# Altium integrated library Altera Cyclone.IntLib: 144 symbols (part 14 of 23)
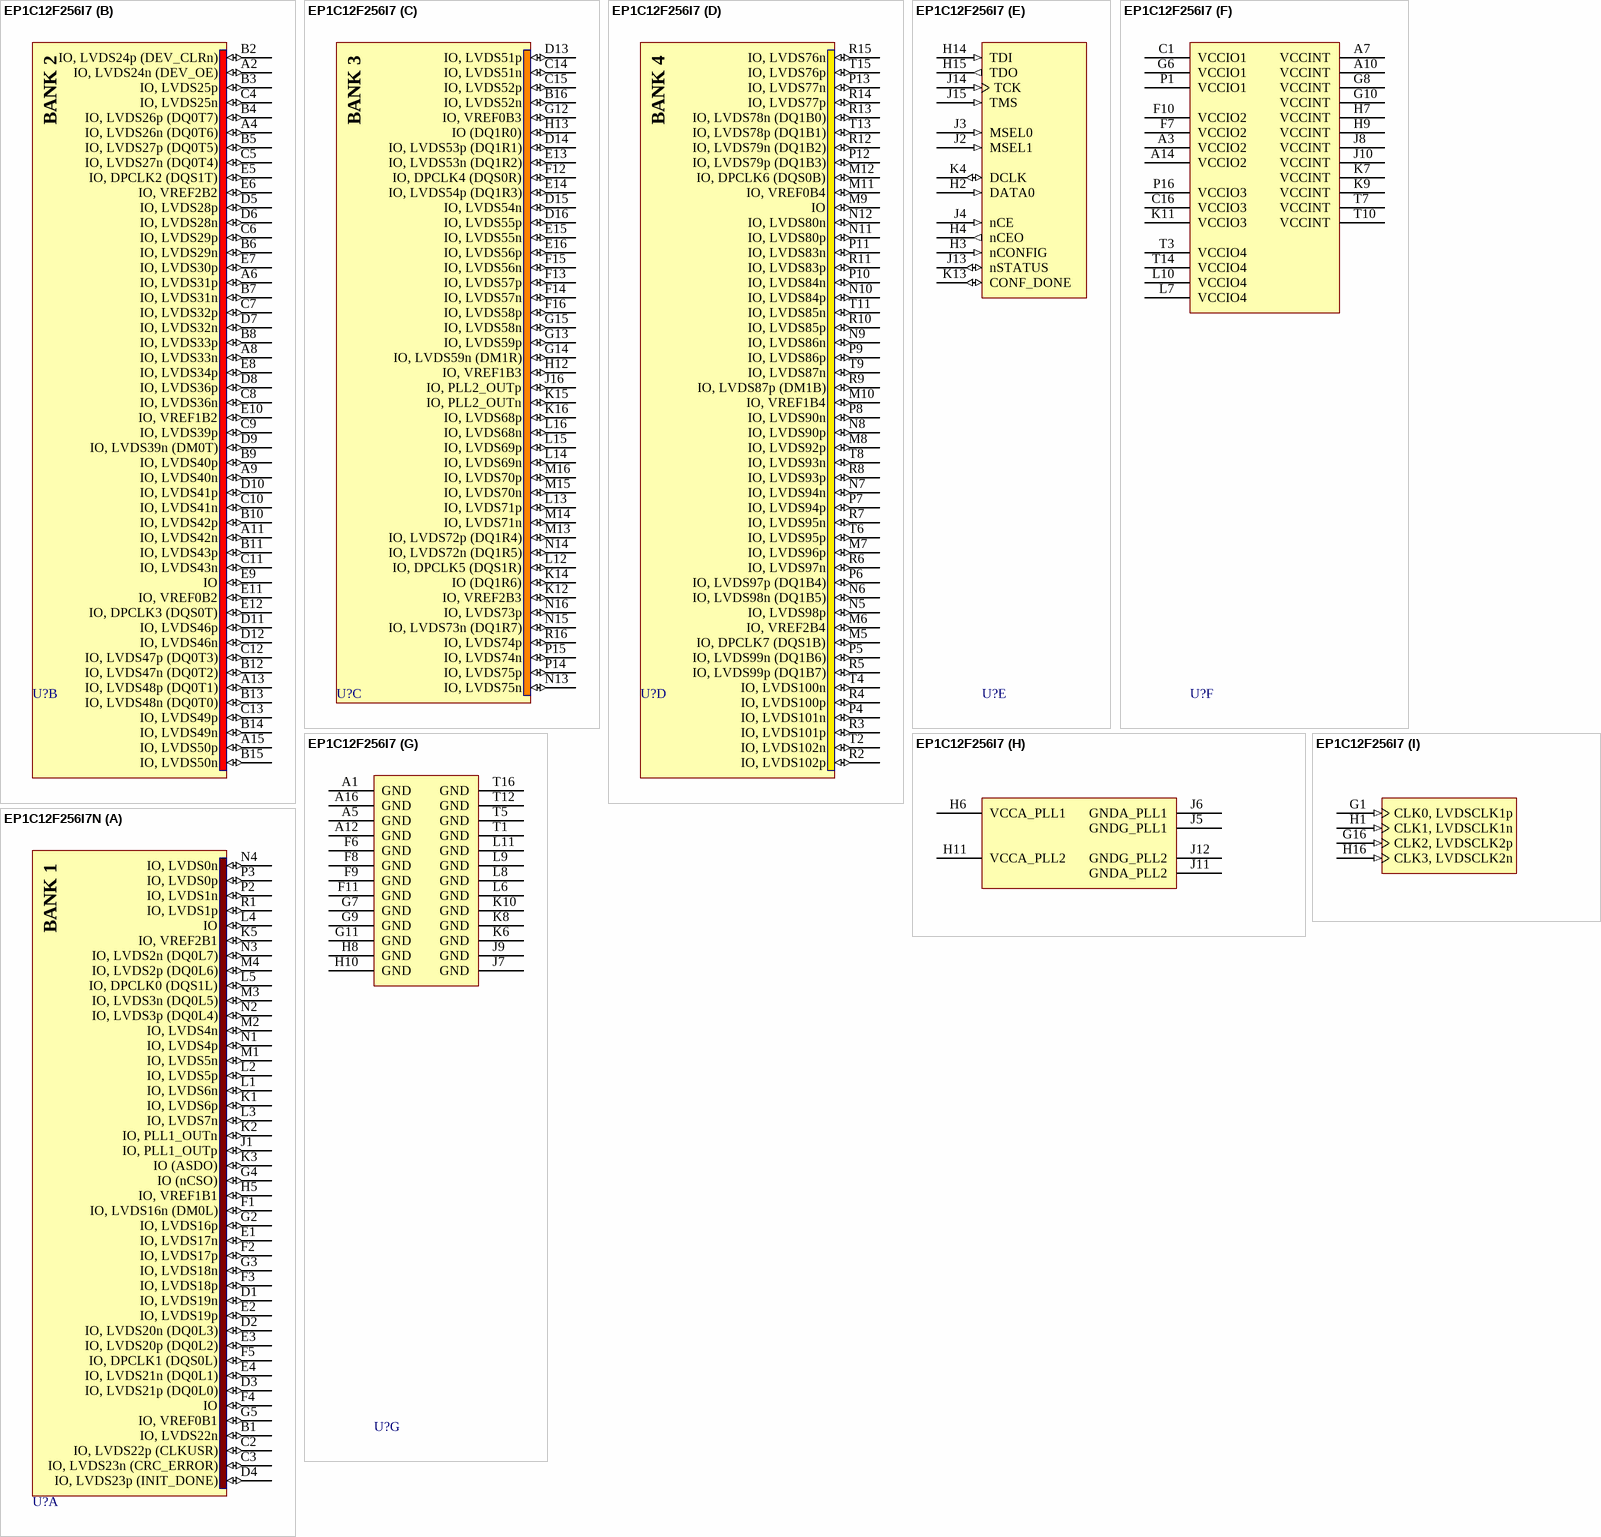
[diagram p166: symbols EP1C12F256I7 to EP1C12F256I7N]

## EP1C12F256I7
designator U?
Cyclone Family, 1.5V FPGA, 185 I/O Pins, 2 x PLLs, Industrial Grade, Speed Grade 7; Published: 17-Sep-2003; LatestRevisionDate: 30-Mar-2007; LatestRevisionNote: DQS pin names fixed.; DatasheetVersion: ver2.4, May-2008; PackageVersion: ver16.0, Dec-2009; PackageReference: FBGA256; Publisher: Altium Limited; PackageDescription: 256-Ball FineLine Ball Grid Array (FBGA256) - Option 1 - Wire Bond; Supplier 1: Digi-Key; Supplier Part Number 1: 544-1013-ND; Code_JEDEC: MS-034-AAF-1; Code_IPC: BGA100P16X16-256; ComponentLink1Description: Manufacturer Link; ComponentLink1URL: http://www.altera.com/products/devices/cyclone/cyc-index.jsp; ComponentLink2Description: Handbook; ComponentLink2URL: http://www.altera.com/literature/hb/cyc/cyc_c5v1.pdf; ComponentLink3Description: Packaging Specification; ComponentLink3URL: http://www.altera.com/literature/ds/dspkg.pdf
footprint FBGA256 (BGA, 256-Leads, Body 17x17mm, Pitch 1mm)
3D model EP1C12-FBGA256 (256-Ball FineLine Ball Grid Array (FBGA256) - Option 1 - Wire Bond)
signal-integrity model 1c (Cyclone)
part A pins: B1 IO, LVDS22n (io), C2 IO, LVDS22p (CLKUSR) (io), C3 IO, LVDS23n (CRC_ERROR) (io), D1 IO, LVDS19n (io), D2 IO, LVDS20n (DQ0L3) (io), D3 IO, LVDS21p (DQ0L0) (io), D4 IO, LVDS23p (INIT_DONE) (io), E1 IO, LVDS17n (io), E2 IO, LVDS19p (io), E3 IO, LVDS20p (DQ0L2) (io), E4 IO, LVDS21n (DQ0L1) (io), F1 IO, LVDS16n (DM0L) (io), F2 IO, LVDS17p (io), F3 IO, LVDS18p (io), F4 IO (io), F5 IO, DPCLK1 (DQS0L) (io), G2 IO, LVDS16p (io), G3 IO, LVDS18n (io), G4 IO (nCSO) (io), G5 IO, VREF0B1 (io), H5 IO, VREF1B1 (io), J1 IO, PLL1_OUTp (io), K1 IO, LVDS6p (io), K2 IO, PLL1_OUTn (io), K3 IO (ASDO) (io), K5 IO, VREF2B1 (io), L1 IO, LVDS6n (io), L2 IO, LVDS5p (io), L3 IO, LVDS7n (io), L4 IO (io), L5 IO, DPCLK0 (DQS1L) (io), M1 IO, LVDS5n (io), M2 IO, LVDS4n (io), M3 IO, LVDS3n (DQ0L5) (io), M4 IO, LVDS2p (DQ0L6) (io), N1 IO, LVDS4p (io), N2 IO, LVDS3p (DQ0L4) (io), N3 IO, LVDS2n (DQ0L7) (io), N4 IO, LVDS0n (io), P2 IO, LVDS1n (io), P3 IO, LVDS0p (io), R1 IO, LVDS1p (io)
part B pins: A2 IO, LVDS24n (DEV_OE) (io), A4 IO, LVDS26n (DQ0T6) (io), A6 IO, LVDS31p (io), A8 IO, LVDS33n (io), A9 IO, LVDS40n (io), A11 IO, LVDS42n (io), A13 IO, LVDS48p (DQ0T1) (io), A15 IO, LVDS50p (io), B2 IO, LVDS24p (DEV_CLRn) (io), B3 IO, LVDS25p (io), B4 IO, LVDS26p (DQ0T7) (io), B5 IO, LVDS27p (DQ0T5) (io), B6 IO, LVDS29n (io), B7 IO, LVDS31n (io), B8 IO, LVDS33p (io), B9 IO, LVDS40p (io), B10 IO, LVDS42p (io), B11 IO, LVDS43p (io), B12 IO, LVDS47n (DQ0T2) (io), B13 IO, LVDS48n (DQ0T0) (io), B14 IO, LVDS49n (io), B15 IO, LVDS50n (io), C4 IO, LVDS25n (io), C5 IO, LVDS27n (DQ0T4) (io), C6 IO, LVDS29p (io), C7 IO, LVDS32p (io), C8 IO, LVDS36n (io), C9 IO, LVDS39p (io), C10 IO, LVDS41n (io), C11 IO, LVDS43n (io), C12 IO, LVDS47p (DQ0T3) (io), C13 IO, LVDS49p (io), D5 IO, LVDS28p (io), D6 IO, LVDS28n (io), D7 IO, LVDS32n (io), D8 IO, LVDS36p (io), D9 IO, LVDS39n (DM0T) (io), D10 IO, LVDS41p (io), D11 IO, LVDS46p (io), D12 IO, LVDS46n (io), E5 IO, DPCLK2 (DQS1T) (io), E6 IO, VREF2B2 (io), E7 IO, LVDS30p (io), E8 IO, LVDS34p (io), E9 IO (io), E10 IO, VREF1B2 (io), E11 IO, VREF0B2 (io), E12 IO, DPCLK3 (DQS0T) (io)
part C pins: B16 IO, LVDS52n (io), C14 IO, LVDS51n (io), C15 IO, LVDS52p (io), D13 IO, LVDS51p (io), D14 IO, LVDS53p (DQ1R1) (io), D15 IO, LVDS54n (io), D16 IO, LVDS55p (io), E13 IO, LVDS53n (DQ1R2) (io), E14 IO, LVDS54p (DQ1R3) (io), E15 IO, LVDS55n (io), E16 IO, LVDS56p (io), F12 IO, DPCLK4 (DQS0R) (io), F13 IO, LVDS57p (io), F14 IO, LVDS57n (io), F15 IO, LVDS56n (io), F16 IO, LVDS58p (io), G12 IO, VREF0B3 (io), G13 IO, LVDS59p (io), G14 IO, LVDS59n (DM1R) (io), G15 IO, LVDS58n (io), H12 IO, VREF1B3 (io), H13 IO (DQ1R0) (io), J16 IO, PLL2_OUTp (io), K12 IO, VREF2B3 (io), K14 IO (DQ1R6) (io), K15 IO, PLL2_OUTn (io), K16 IO, LVDS68p (io), L12 IO, DPCLK5 (DQS1R) (io), L13 IO, LVDS71p (io), L14 IO, LVDS69n (io), L15 IO, LVDS69p (io), L16 IO, LVDS68n (io), M13 IO, LVDS72p (DQ1R4) (io), M14 IO, LVDS71n (io), M15 IO, LVDS70n (io), M16 IO, LVDS70p (io), N13 IO, LVDS75n (io), N14 IO, LVDS72n (DQ1R5) (io), N15 IO, LVDS73n (DQ1R7) (io), N16 IO, LVDS73p (io), P14 IO, LVDS75p (io), P15 IO, LVDS74n (io), R16 IO, LVDS74p (io)
part D pins: M5 IO, DPCLK7 (DQS1B) (io), M6 IO, VREF2B4 (io), M7 IO, LVDS96p (io), M8 IO, LVDS92p (io), M9 IO (io), M10 IO, VREF1B4 (io), M11 IO, VREF0B4 (io), M12 IO, DPCLK6 (DQS0B) (io), N5 IO, LVDS98p (io), N6 IO, LVDS98n (DQ1B5) (io), N7 IO, LVDS94n (io), N8 IO, LVDS90p (io), N9 IO, LVDS86n (io), N10 IO, LVDS84p (io), N11 IO, LVDS80p (io), N12 IO, LVDS80n (io), P4 IO, LVDS101n (io), P5 IO, LVDS99n (DQ1B6) (io), P6 IO, LVDS97p (DQ1B4) (io), P7 IO, LVDS94p (io), P8 IO, LVDS90n (io), P9 IO, LVDS86p (io), P10 IO, LVDS84n (io), P11 IO, LVDS83n (io), P12 IO, LVDS79p (DQ1B3) (io), P13 IO, LVDS77n (io), R2 IO, LVDS102p (io), R3 IO, LVDS101p (io), R4 IO, LVDS100p (io), R5 IO, LVDS99p (DQ1B7) (io), R6 IO, LVDS97n (io), R7 IO, LVDS95n (io), R8 IO, LVDS93p (io), R9 IO, LVDS87p (DM1B) (io), R10 IO, LVDS85p (io), R11 IO, LVDS83p (io), R12 IO, LVDS79n (DQ1B2) (io), R13 IO, LVDS78n (DQ1B0) (io), R14 IO, LVDS77p (io), R15 IO, LVDS76n (io), T2 IO, LVDS102n (io), T4 IO, LVDS100n (io), T6 IO, LVDS95p (io), T8 IO, LVDS93n (io), T9 IO, LVDS87n (io), T11 IO, LVDS85n (io), T13 IO, LVDS78p (DQ1B1) (io), T15 IO, LVDS76p (io)
part E pins: H2 DATA0 (in), H3 nCONFIG (in), H4 nCEO (out), H14 TDI (in), H15 TDO (out), J2 MSEL1 (in), J3 MSEL0 (in), J4 nCE (in), J13 nSTATUS (io), J14 TCK (in), J15 TMS (in), K4 DCLK (io), K13 CONF_DONE (io)
part F pins: A3 VCCIO2 (power), A7 VCCINT (power), A10 VCCINT (power), A14 VCCIO2 (power), C1 VCCIO1 (power), C16 VCCIO3 (power), F7 VCCIO2 (power), F10 VCCIO2 (power), G6 VCCIO1 (power), G8 VCCINT (power), G10 VCCINT (power), H7 VCCINT (power), H9 VCCINT (power), J8 VCCINT (power), J10 VCCINT (power), K7 VCCINT (power), K9 VCCINT (power), K11 VCCIO3 (power), L7 VCCIO4 (power), L10 VCCIO4 (power), P1 VCCIO1 (power), P16 VCCIO3 (power), T3 VCCIO4 (power), T7 VCCINT (power), T10 VCCINT (power), T14 VCCIO4 (power)
part G pins: A1 GND (power), A5 GND (power), A12 GND (power), A16 GND (power), F6 GND (power), F8 GND (power), F9 GND (power), F11 GND (power), G7 GND (power), G9 GND (power), G11 GND (power), H8 GND (power), H10 GND (power), J7 GND (power), J9 GND (power), K6 GND (power), K8 GND (power), K10 GND (power), L6 GND (power), L8 GND (power), L9 GND (power), L11 GND (power), T1 GND (power), T5 GND (power), T12 GND (power), T16 GND (power)
part H pins: H6 VCCA_PLL1 (power), H11 VCCA_PLL2 (power), J5 GNDG_PLL1 (power), J6 GNDA_PLL1 (power), J11 GNDA_PLL2 (power), J12 GNDG_PLL2 (power)
part I pins: G1 CLK0, LVDSCLK1p (in), G16 CLK2, LVDSCLK2p (in), H1 CLK1, LVDSCLK1n (in), H16 CLK3, LVDSCLK2n (in)
part A text: BANK 1
part B text: BANK 2
part C text: BANK 3
part D text: BANK 4

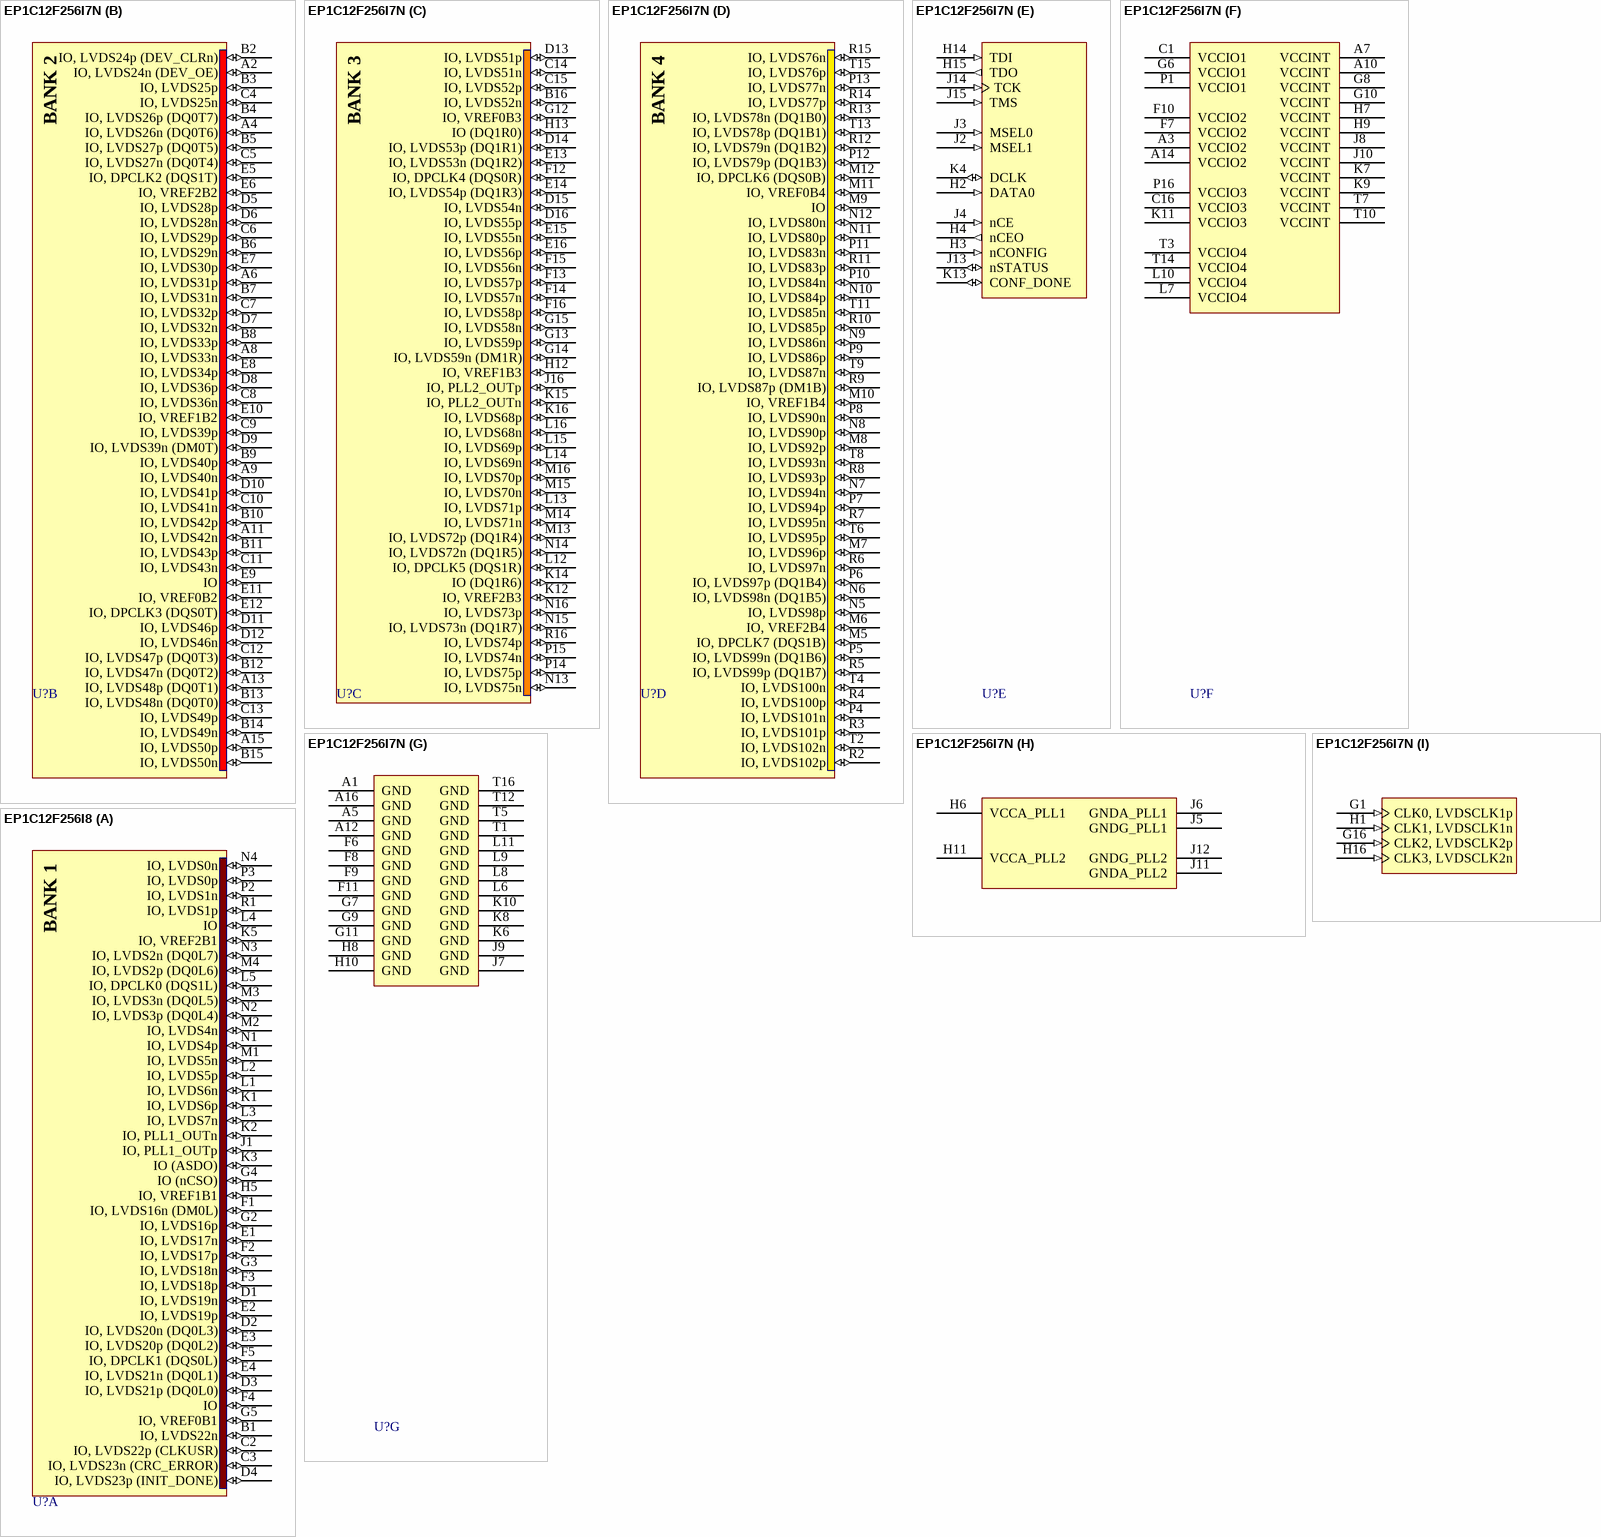
[diagram p89: symbols EP1C12F256I7N to EP1C12F256I8]

## EP1C12F256I7N
designator U?
Cyclone Family, 1.5V FPGA, 185 I/O Pins, 2 x PLLs, Industrial Grade, Speed Grade 7, Pb-Free; Published: 18-Aug-2005; LatestRevisionDate: 30-Mar-2007; LatestRevisionNote: DQS pin names fixed.; DatasheetVersion: ver2.4, May-2008; PackageVersion: ver16.0, Dec-2009; PackageReference: FBGA256; Publisher: Altium Limited; PackageDescription: 256-Ball FineLine Ball Grid Array (FBGA256) - Option 1 - Wire Bond; Supplier 1: Digi-Key; Supplier Part Number 1: 544-1676-ND; Supplier 2: Farnell; Supplier Part Number 2: 1453467; Code_JEDEC: MS-034-AAF-1; Code_IPC: BGA100P16X16-256; ComponentLink1Description: Manufacturer Link; ComponentLink1URL: http://www.altera.com/products/devices/cyclone/cyc-index.jsp; ComponentLink2Description: Handbook; ComponentLink2URL: http://www.altera.com/literature/hb/cyc/cyc_c5v1.pdf; ComponentLink3Description: Packaging Specification; ComponentLink3URL: http://www.altera.com/literature/ds/dspkg.pdf
footprint FBGA256 (BGA, 256-Leads, Body 17x17mm, Pitch 1mm)
3D model EP1C12-FBGA256 (256-Ball FineLine Ball Grid Array (FBGA256) - Option 1 - Wire Bond)
signal-integrity model 1c (Cyclone)
part A pins: B1 IO, LVDS22n (io), C2 IO, LVDS22p (CLKUSR) (io), C3 IO, LVDS23n (CRC_ERROR) (io), D1 IO, LVDS19n (io), D2 IO, LVDS20n (DQ0L3) (io), D3 IO, LVDS21p (DQ0L0) (io), D4 IO, LVDS23p (INIT_DONE) (io), E1 IO, LVDS17n (io), E2 IO, LVDS19p (io), E3 IO, LVDS20p (DQ0L2) (io), E4 IO, LVDS21n (DQ0L1) (io), F1 IO, LVDS16n (DM0L) (io), F2 IO, LVDS17p (io), F3 IO, LVDS18p (io), F4 IO (io), F5 IO, DPCLK1 (DQS0L) (io), G2 IO, LVDS16p (io), G3 IO, LVDS18n (io), G4 IO (nCSO) (io), G5 IO, VREF0B1 (io), H5 IO, VREF1B1 (io), J1 IO, PLL1_OUTp (io), K1 IO, LVDS6p (io), K2 IO, PLL1_OUTn (io), K3 IO (ASDO) (io), K5 IO, VREF2B1 (io), L1 IO, LVDS6n (io), L2 IO, LVDS5p (io), L3 IO, LVDS7n (io), L4 IO (io), L5 IO, DPCLK0 (DQS1L) (io), M1 IO, LVDS5n (io), M2 IO, LVDS4n (io), M3 IO, LVDS3n (DQ0L5) (io), M4 IO, LVDS2p (DQ0L6) (io), N1 IO, LVDS4p (io), N2 IO, LVDS3p (DQ0L4) (io), N3 IO, LVDS2n (DQ0L7) (io), N4 IO, LVDS0n (io), P2 IO, LVDS1n (io), P3 IO, LVDS0p (io), R1 IO, LVDS1p (io)
part B pins: A2 IO, LVDS24n (DEV_OE) (io), A4 IO, LVDS26n (DQ0T6) (io), A6 IO, LVDS31p (io), A8 IO, LVDS33n (io), A9 IO, LVDS40n (io), A11 IO, LVDS42n (io), A13 IO, LVDS48p (DQ0T1) (io), A15 IO, LVDS50p (io), B2 IO, LVDS24p (DEV_CLRn) (io), B3 IO, LVDS25p (io), B4 IO, LVDS26p (DQ0T7) (io), B5 IO, LVDS27p (DQ0T5) (io), B6 IO, LVDS29n (io), B7 IO, LVDS31n (io), B8 IO, LVDS33p (io), B9 IO, LVDS40p (io), B10 IO, LVDS42p (io), B11 IO, LVDS43p (io), B12 IO, LVDS47n (DQ0T2) (io), B13 IO, LVDS48n (DQ0T0) (io), B14 IO, LVDS49n (io), B15 IO, LVDS50n (io), C4 IO, LVDS25n (io), C5 IO, LVDS27n (DQ0T4) (io), C6 IO, LVDS29p (io), C7 IO, LVDS32p (io), C8 IO, LVDS36n (io), C9 IO, LVDS39p (io), C10 IO, LVDS41n (io), C11 IO, LVDS43n (io), C12 IO, LVDS47p (DQ0T3) (io), C13 IO, LVDS49p (io), D5 IO, LVDS28p (io), D6 IO, LVDS28n (io), D7 IO, LVDS32n (io), D8 IO, LVDS36p (io), D9 IO, LVDS39n (DM0T) (io), D10 IO, LVDS41p (io), D11 IO, LVDS46p (io), D12 IO, LVDS46n (io), E5 IO, DPCLK2 (DQS1T) (io), E6 IO, VREF2B2 (io), E7 IO, LVDS30p (io), E8 IO, LVDS34p (io), E9 IO (io), E10 IO, VREF1B2 (io), E11 IO, VREF0B2 (io), E12 IO, DPCLK3 (DQS0T) (io)
part C pins: B16 IO, LVDS52n (io), C14 IO, LVDS51n (io), C15 IO, LVDS52p (io), D13 IO, LVDS51p (io), D14 IO, LVDS53p (DQ1R1) (io), D15 IO, LVDS54n (io), D16 IO, LVDS55p (io), E13 IO, LVDS53n (DQ1R2) (io), E14 IO, LVDS54p (DQ1R3) (io), E15 IO, LVDS55n (io), E16 IO, LVDS56p (io), F12 IO, DPCLK4 (DQS0R) (io), F13 IO, LVDS57p (io), F14 IO, LVDS57n (io), F15 IO, LVDS56n (io), F16 IO, LVDS58p (io), G12 IO, VREF0B3 (io), G13 IO, LVDS59p (io), G14 IO, LVDS59n (DM1R) (io), G15 IO, LVDS58n (io), H12 IO, VREF1B3 (io), H13 IO (DQ1R0) (io), J16 IO, PLL2_OUTp (io), K12 IO, VREF2B3 (io), K14 IO (DQ1R6) (io), K15 IO, PLL2_OUTn (io), K16 IO, LVDS68p (io), L12 IO, DPCLK5 (DQS1R) (io), L13 IO, LVDS71p (io), L14 IO, LVDS69n (io), L15 IO, LVDS69p (io), L16 IO, LVDS68n (io), M13 IO, LVDS72p (DQ1R4) (io), M14 IO, LVDS71n (io), M15 IO, LVDS70n (io), M16 IO, LVDS70p (io), N13 IO, LVDS75n (io), N14 IO, LVDS72n (DQ1R5) (io), N15 IO, LVDS73n (DQ1R7) (io), N16 IO, LVDS73p (io), P14 IO, LVDS75p (io), P15 IO, LVDS74n (io), R16 IO, LVDS74p (io)
part D pins: M5 IO, DPCLK7 (DQS1B) (io), M6 IO, VREF2B4 (io), M7 IO, LVDS96p (io), M8 IO, LVDS92p (io), M9 IO (io), M10 IO, VREF1B4 (io), M11 IO, VREF0B4 (io), M12 IO, DPCLK6 (DQS0B) (io), N5 IO, LVDS98p (io), N6 IO, LVDS98n (DQ1B5) (io), N7 IO, LVDS94n (io), N8 IO, LVDS90p (io), N9 IO, LVDS86n (io), N10 IO, LVDS84p (io), N11 IO, LVDS80p (io), N12 IO, LVDS80n (io), P4 IO, LVDS101n (io), P5 IO, LVDS99n (DQ1B6) (io), P6 IO, LVDS97p (DQ1B4) (io), P7 IO, LVDS94p (io), P8 IO, LVDS90n (io), P9 IO, LVDS86p (io), P10 IO, LVDS84n (io), P11 IO, LVDS83n (io), P12 IO, LVDS79p (DQ1B3) (io), P13 IO, LVDS77n (io), R2 IO, LVDS102p (io), R3 IO, LVDS101p (io), R4 IO, LVDS100p (io), R5 IO, LVDS99p (DQ1B7) (io), R6 IO, LVDS97n (io), R7 IO, LVDS95n (io), R8 IO, LVDS93p (io), R9 IO, LVDS87p (DM1B) (io), R10 IO, LVDS85p (io), R11 IO, LVDS83p (io), R12 IO, LVDS79n (DQ1B2) (io), R13 IO, LVDS78n (DQ1B0) (io), R14 IO, LVDS77p (io), R15 IO, LVDS76n (io), T2 IO, LVDS102n (io), T4 IO, LVDS100n (io), T6 IO, LVDS95p (io), T8 IO, LVDS93n (io), T9 IO, LVDS87n (io), T11 IO, LVDS85n (io), T13 IO, LVDS78p (DQ1B1) (io), T15 IO, LVDS76p (io)
part E pins: H2 DATA0 (in), H3 nCONFIG (in), H4 nCEO (out), H14 TDI (in), H15 TDO (out), J2 MSEL1 (in), J3 MSEL0 (in), J4 nCE (in), J13 nSTATUS (io), J14 TCK (in), J15 TMS (in), K4 DCLK (io), K13 CONF_DONE (io)
part F pins: A3 VCCIO2 (power), A7 VCCINT (power), A10 VCCINT (power), A14 VCCIO2 (power), C1 VCCIO1 (power), C16 VCCIO3 (power), F7 VCCIO2 (power), F10 VCCIO2 (power), G6 VCCIO1 (power), G8 VCCINT (power), G10 VCCINT (power), H7 VCCINT (power), H9 VCCINT (power), J8 VCCINT (power), J10 VCCINT (power), K7 VCCINT (power), K9 VCCINT (power), K11 VCCIO3 (power), L7 VCCIO4 (power), L10 VCCIO4 (power), P1 VCCIO1 (power), P16 VCCIO3 (power), T3 VCCIO4 (power), T7 VCCINT (power), T10 VCCINT (power), T14 VCCIO4 (power)
part G pins: A1 GND (power), A5 GND (power), A12 GND (power), A16 GND (power), F6 GND (power), F8 GND (power), F9 GND (power), F11 GND (power), G7 GND (power), G9 GND (power), G11 GND (power), H8 GND (power), H10 GND (power), J7 GND (power), J9 GND (power), K6 GND (power), K8 GND (power), K10 GND (power), L6 GND (power), L8 GND (power), L9 GND (power), L11 GND (power), T1 GND (power), T5 GND (power), T12 GND (power), T16 GND (power)
part H pins: H6 VCCA_PLL1 (power), H11 VCCA_PLL2 (power), J5 GNDG_PLL1 (power), J6 GNDA_PLL1 (power), J11 GNDA_PLL2 (power), J12 GNDG_PLL2 (power)
part I pins: G1 CLK0, LVDSCLK1p (in), G16 CLK2, LVDSCLK2p (in), H1 CLK1, LVDSCLK1n (in), H16 CLK3, LVDSCLK2n (in)
part A text: BANK 1
part B text: BANK 2
part C text: BANK 3
part D text: BANK 4

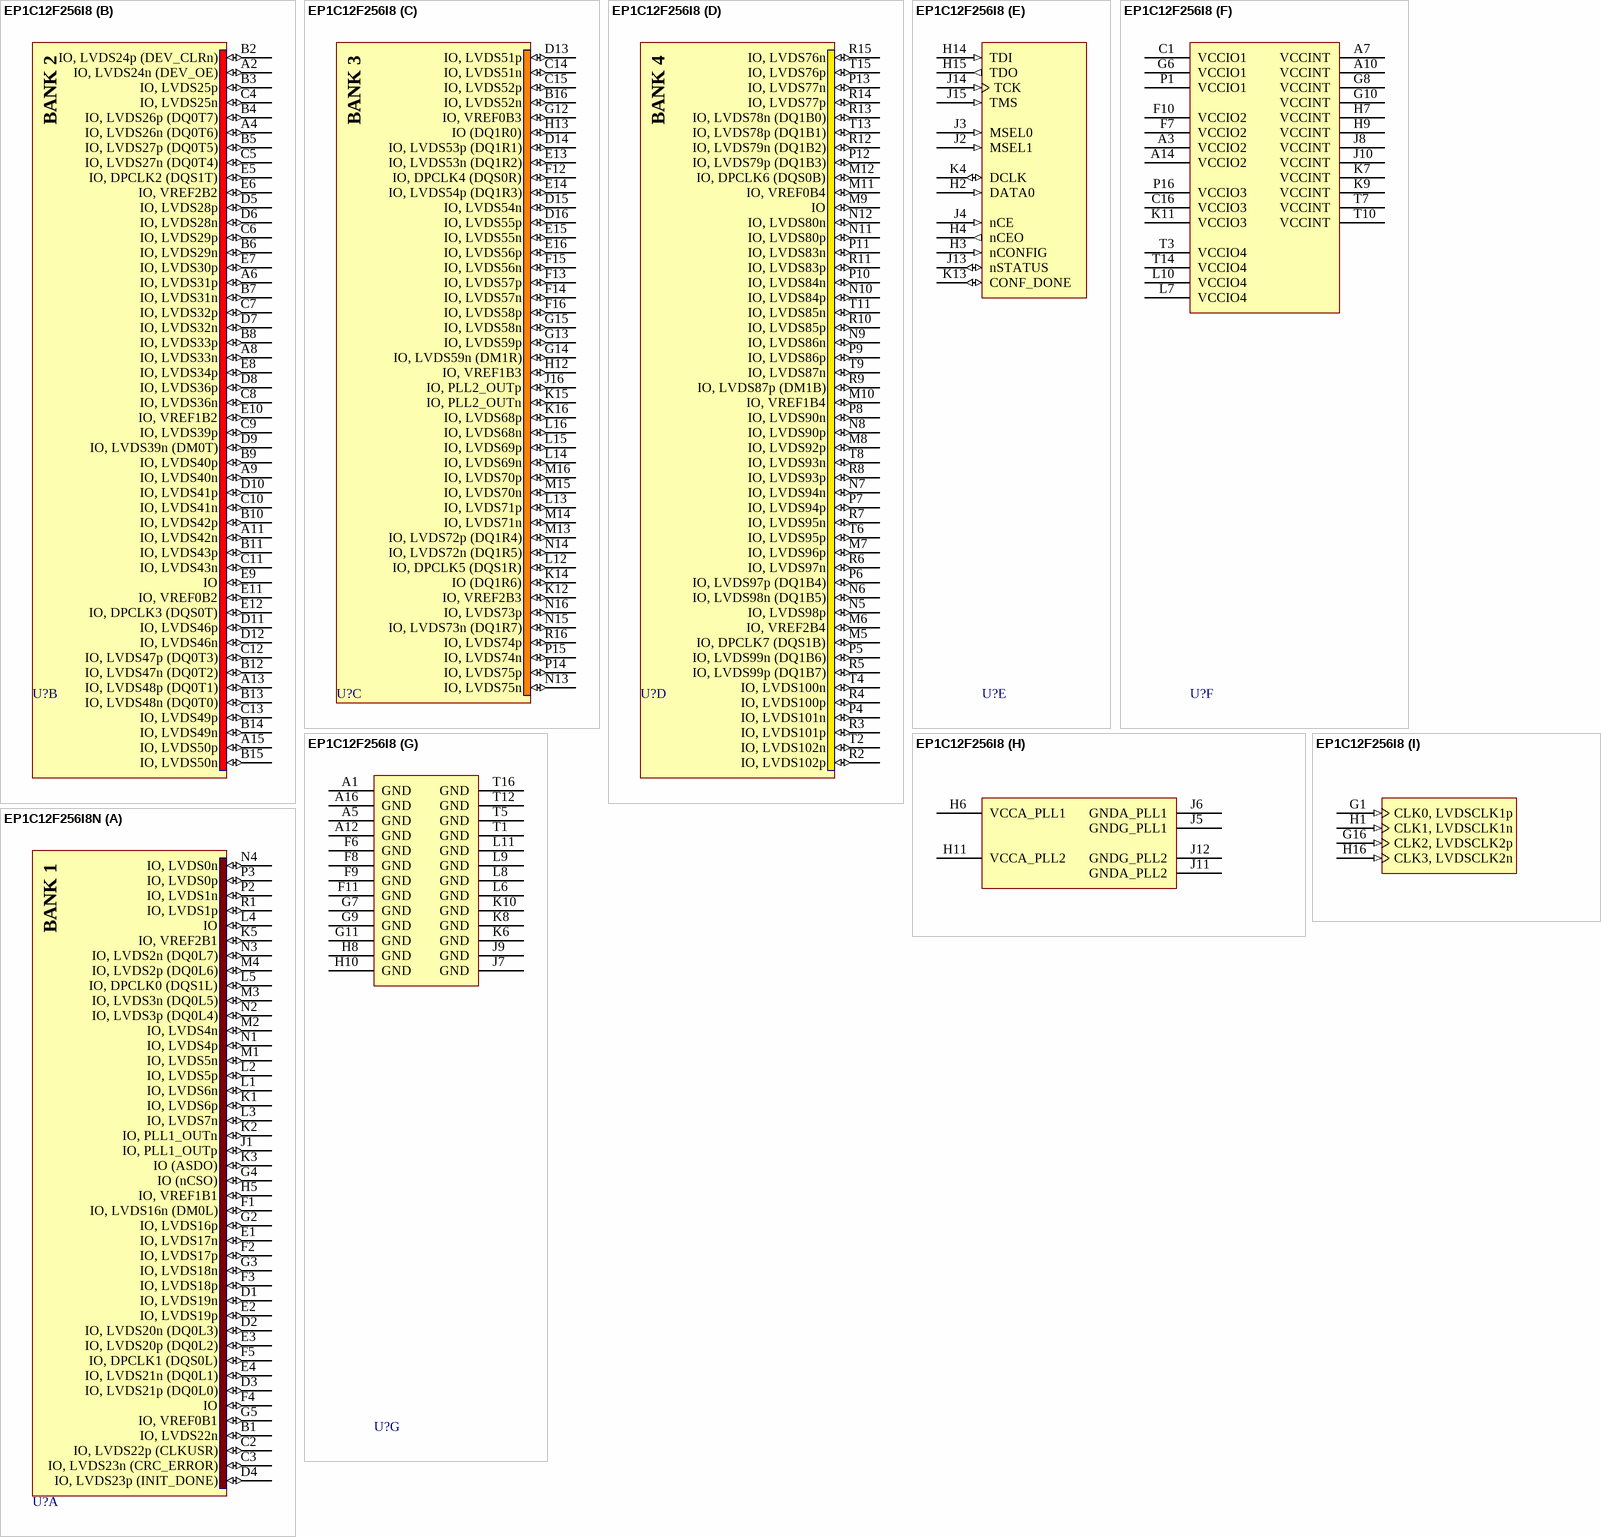
[diagram p90: symbols EP1C12F256I8 to EP1C12F256I8N]

## EP1C12F256I8
designator U?
Cyclone Family, 1.5V FPGA, 185 I/O Pins, 2 x PLLs, Industrial Grade, Speed Grade 8; Published: 17-Sep-2003; LatestRevisionDate: 30-Mar-2007; LatestRevisionNote: DQS pin names fixed.; DatasheetVersion: ver2.4, May-2008; PackageVersion: ver16.0, Dec-2009; PackageReference: FBGA256; Publisher: Altium Limited; PackageDescription: 256-Ball FineLine Ball Grid Array (FBGA256) - Option 1 - Wire Bond; Code_JEDEC: MS-034-AAF-1; Code_IPC: BGA100P16X16-256; ComponentLink1Description: Manufacturer Link; ComponentLink1URL: http://www.altera.com/products/devices/cyclone/cyc-index.jsp; ComponentLink2Description: Handbook; ComponentLink2URL: http://www.altera.com/literature/hb/cyc/cyc_c5v1.pdf; ComponentLink3Description: Packaging Specification; ComponentLink3URL: http://www.altera.com/literature/ds/dspkg.pdf
footprint FBGA256 (BGA, 256-Leads, Body 17x17mm, Pitch 1mm)
3D model EP1C12-FBGA256 (256-Ball FineLine Ball Grid Array (FBGA256) - Option 1 - Wire Bond)
signal-integrity model 1c (Cyclone)
part A pins: B1 IO, LVDS22n (io), C2 IO, LVDS22p (CLKUSR) (io), C3 IO, LVDS23n (CRC_ERROR) (io), D1 IO, LVDS19n (io), D2 IO, LVDS20n (DQ0L3) (io), D3 IO, LVDS21p (DQ0L0) (io), D4 IO, LVDS23p (INIT_DONE) (io), E1 IO, LVDS17n (io), E2 IO, LVDS19p (io), E3 IO, LVDS20p (DQ0L2) (io), E4 IO, LVDS21n (DQ0L1) (io), F1 IO, LVDS16n (DM0L) (io), F2 IO, LVDS17p (io), F3 IO, LVDS18p (io), F4 IO (io), F5 IO, DPCLK1 (DQS0L) (io), G2 IO, LVDS16p (io), G3 IO, LVDS18n (io), G4 IO (nCSO) (io), G5 IO, VREF0B1 (io), H5 IO, VREF1B1 (io), J1 IO, PLL1_OUTp (io), K1 IO, LVDS6p (io), K2 IO, PLL1_OUTn (io), K3 IO (ASDO) (io), K5 IO, VREF2B1 (io), L1 IO, LVDS6n (io), L2 IO, LVDS5p (io), L3 IO, LVDS7n (io), L4 IO (io), L5 IO, DPCLK0 (DQS1L) (io), M1 IO, LVDS5n (io), M2 IO, LVDS4n (io), M3 IO, LVDS3n (DQ0L5) (io), M4 IO, LVDS2p (DQ0L6) (io), N1 IO, LVDS4p (io), N2 IO, LVDS3p (DQ0L4) (io), N3 IO, LVDS2n (DQ0L7) (io), N4 IO, LVDS0n (io), P2 IO, LVDS1n (io), P3 IO, LVDS0p (io), R1 IO, LVDS1p (io)
part B pins: A2 IO, LVDS24n (DEV_OE) (io), A4 IO, LVDS26n (DQ0T6) (io), A6 IO, LVDS31p (io), A8 IO, LVDS33n (io), A9 IO, LVDS40n (io), A11 IO, LVDS42n (io), A13 IO, LVDS48p (DQ0T1) (io), A15 IO, LVDS50p (io), B2 IO, LVDS24p (DEV_CLRn) (io), B3 IO, LVDS25p (io), B4 IO, LVDS26p (DQ0T7) (io), B5 IO, LVDS27p (DQ0T5) (io), B6 IO, LVDS29n (io), B7 IO, LVDS31n (io), B8 IO, LVDS33p (io), B9 IO, LVDS40p (io), B10 IO, LVDS42p (io), B11 IO, LVDS43p (io), B12 IO, LVDS47n (DQ0T2) (io), B13 IO, LVDS48n (DQ0T0) (io), B14 IO, LVDS49n (io), B15 IO, LVDS50n (io), C4 IO, LVDS25n (io), C5 IO, LVDS27n (DQ0T4) (io), C6 IO, LVDS29p (io), C7 IO, LVDS32p (io), C8 IO, LVDS36n (io), C9 IO, LVDS39p (io), C10 IO, LVDS41n (io), C11 IO, LVDS43n (io), C12 IO, LVDS47p (DQ0T3) (io), C13 IO, LVDS49p (io), D5 IO, LVDS28p (io), D6 IO, LVDS28n (io), D7 IO, LVDS32n (io), D8 IO, LVDS36p (io), D9 IO, LVDS39n (DM0T) (io), D10 IO, LVDS41p (io), D11 IO, LVDS46p (io), D12 IO, LVDS46n (io), E5 IO, DPCLK2 (DQS1T) (io), E6 IO, VREF2B2 (io), E7 IO, LVDS30p (io), E8 IO, LVDS34p (io), E9 IO (io), E10 IO, VREF1B2 (io), E11 IO, VREF0B2 (io), E12 IO, DPCLK3 (DQS0T) (io)
part C pins: B16 IO, LVDS52n (io), C14 IO, LVDS51n (io), C15 IO, LVDS52p (io), D13 IO, LVDS51p (io), D14 IO, LVDS53p (DQ1R1) (io), D15 IO, LVDS54n (io), D16 IO, LVDS55p (io), E13 IO, LVDS53n (DQ1R2) (io), E14 IO, LVDS54p (DQ1R3) (io), E15 IO, LVDS55n (io), E16 IO, LVDS56p (io), F12 IO, DPCLK4 (DQS0R) (io), F13 IO, LVDS57p (io), F14 IO, LVDS57n (io), F15 IO, LVDS56n (io), F16 IO, LVDS58p (io), G12 IO, VREF0B3 (io), G13 IO, LVDS59p (io), G14 IO, LVDS59n (DM1R) (io), G15 IO, LVDS58n (io), H12 IO, VREF1B3 (io), H13 IO (DQ1R0) (io), J16 IO, PLL2_OUTp (io), K12 IO, VREF2B3 (io), K14 IO (DQ1R6) (io), K15 IO, PLL2_OUTn (io), K16 IO, LVDS68p (io), L12 IO, DPCLK5 (DQS1R) (io), L13 IO, LVDS71p (io), L14 IO, LVDS69n (io), L15 IO, LVDS69p (io), L16 IO, LVDS68n (io), M13 IO, LVDS72p (DQ1R4) (io), M14 IO, LVDS71n (io), M15 IO, LVDS70n (io), M16 IO, LVDS70p (io), N13 IO, LVDS75n (io), N14 IO, LVDS72n (DQ1R5) (io), N15 IO, LVDS73n (DQ1R7) (io), N16 IO, LVDS73p (io), P14 IO, LVDS75p (io), P15 IO, LVDS74n (io), R16 IO, LVDS74p (io)
part D pins: M5 IO, DPCLK7 (DQS1B) (io), M6 IO, VREF2B4 (io), M7 IO, LVDS96p (io), M8 IO, LVDS92p (io), M9 IO (io), M10 IO, VREF1B4 (io), M11 IO, VREF0B4 (io), M12 IO, DPCLK6 (DQS0B) (io), N5 IO, LVDS98p (io), N6 IO, LVDS98n (DQ1B5) (io), N7 IO, LVDS94n (io), N8 IO, LVDS90p (io), N9 IO, LVDS86n (io), N10 IO, LVDS84p (io), N11 IO, LVDS80p (io), N12 IO, LVDS80n (io), P4 IO, LVDS101n (io), P5 IO, LVDS99n (DQ1B6) (io), P6 IO, LVDS97p (DQ1B4) (io), P7 IO, LVDS94p (io), P8 IO, LVDS90n (io), P9 IO, LVDS86p (io), P10 IO, LVDS84n (io), P11 IO, LVDS83n (io), P12 IO, LVDS79p (DQ1B3) (io), P13 IO, LVDS77n (io), R2 IO, LVDS102p (io), R3 IO, LVDS101p (io), R4 IO, LVDS100p (io), R5 IO, LVDS99p (DQ1B7) (io), R6 IO, LVDS97n (io), R7 IO, LVDS95n (io), R8 IO, LVDS93p (io), R9 IO, LVDS87p (DM1B) (io), R10 IO, LVDS85p (io), R11 IO, LVDS83p (io), R12 IO, LVDS79n (DQ1B2) (io), R13 IO, LVDS78n (DQ1B0) (io), R14 IO, LVDS77p (io), R15 IO, LVDS76n (io), T2 IO, LVDS102n (io), T4 IO, LVDS100n (io), T6 IO, LVDS95p (io), T8 IO, LVDS93n (io), T9 IO, LVDS87n (io), T11 IO, LVDS85n (io), T13 IO, LVDS78p (DQ1B1) (io), T15 IO, LVDS76p (io)
part E pins: H2 DATA0 (in), H3 nCONFIG (in), H4 nCEO (out), H14 TDI (in), H15 TDO (out), J2 MSEL1 (in), J3 MSEL0 (in), J4 nCE (in), J13 nSTATUS (io), J14 TCK (in), J15 TMS (in), K4 DCLK (io), K13 CONF_DONE (io)
part F pins: A3 VCCIO2 (power), A7 VCCINT (power), A10 VCCINT (power), A14 VCCIO2 (power), C1 VCCIO1 (power), C16 VCCIO3 (power), F7 VCCIO2 (power), F10 VCCIO2 (power), G6 VCCIO1 (power), G8 VCCINT (power), G10 VCCINT (power), H7 VCCINT (power), H9 VCCINT (power), J8 VCCINT (power), J10 VCCINT (power), K7 VCCINT (power), K9 VCCINT (power), K11 VCCIO3 (power), L7 VCCIO4 (power), L10 VCCIO4 (power), P1 VCCIO1 (power), P16 VCCIO3 (power), T3 VCCIO4 (power), T7 VCCINT (power), T10 VCCINT (power), T14 VCCIO4 (power)
part G pins: A1 GND (power), A5 GND (power), A12 GND (power), A16 GND (power), F6 GND (power), F8 GND (power), F9 GND (power), F11 GND (power), G7 GND (power), G9 GND (power), G11 GND (power), H8 GND (power), H10 GND (power), J7 GND (power), J9 GND (power), K6 GND (power), K8 GND (power), K10 GND (power), L6 GND (power), L8 GND (power), L9 GND (power), L11 GND (power), T1 GND (power), T5 GND (power), T12 GND (power), T16 GND (power)
part H pins: H6 VCCA_PLL1 (power), H11 VCCA_PLL2 (power), J5 GNDG_PLL1 (power), J6 GNDA_PLL1 (power), J11 GNDA_PLL2 (power), J12 GNDG_PLL2 (power)
part I pins: G1 CLK0, LVDSCLK1p (in), G16 CLK2, LVDSCLK2p (in), H1 CLK1, LVDSCLK1n (in), H16 CLK3, LVDSCLK2n (in)
part A text: BANK 1
part B text: BANK 2
part C text: BANK 3
part D text: BANK 4

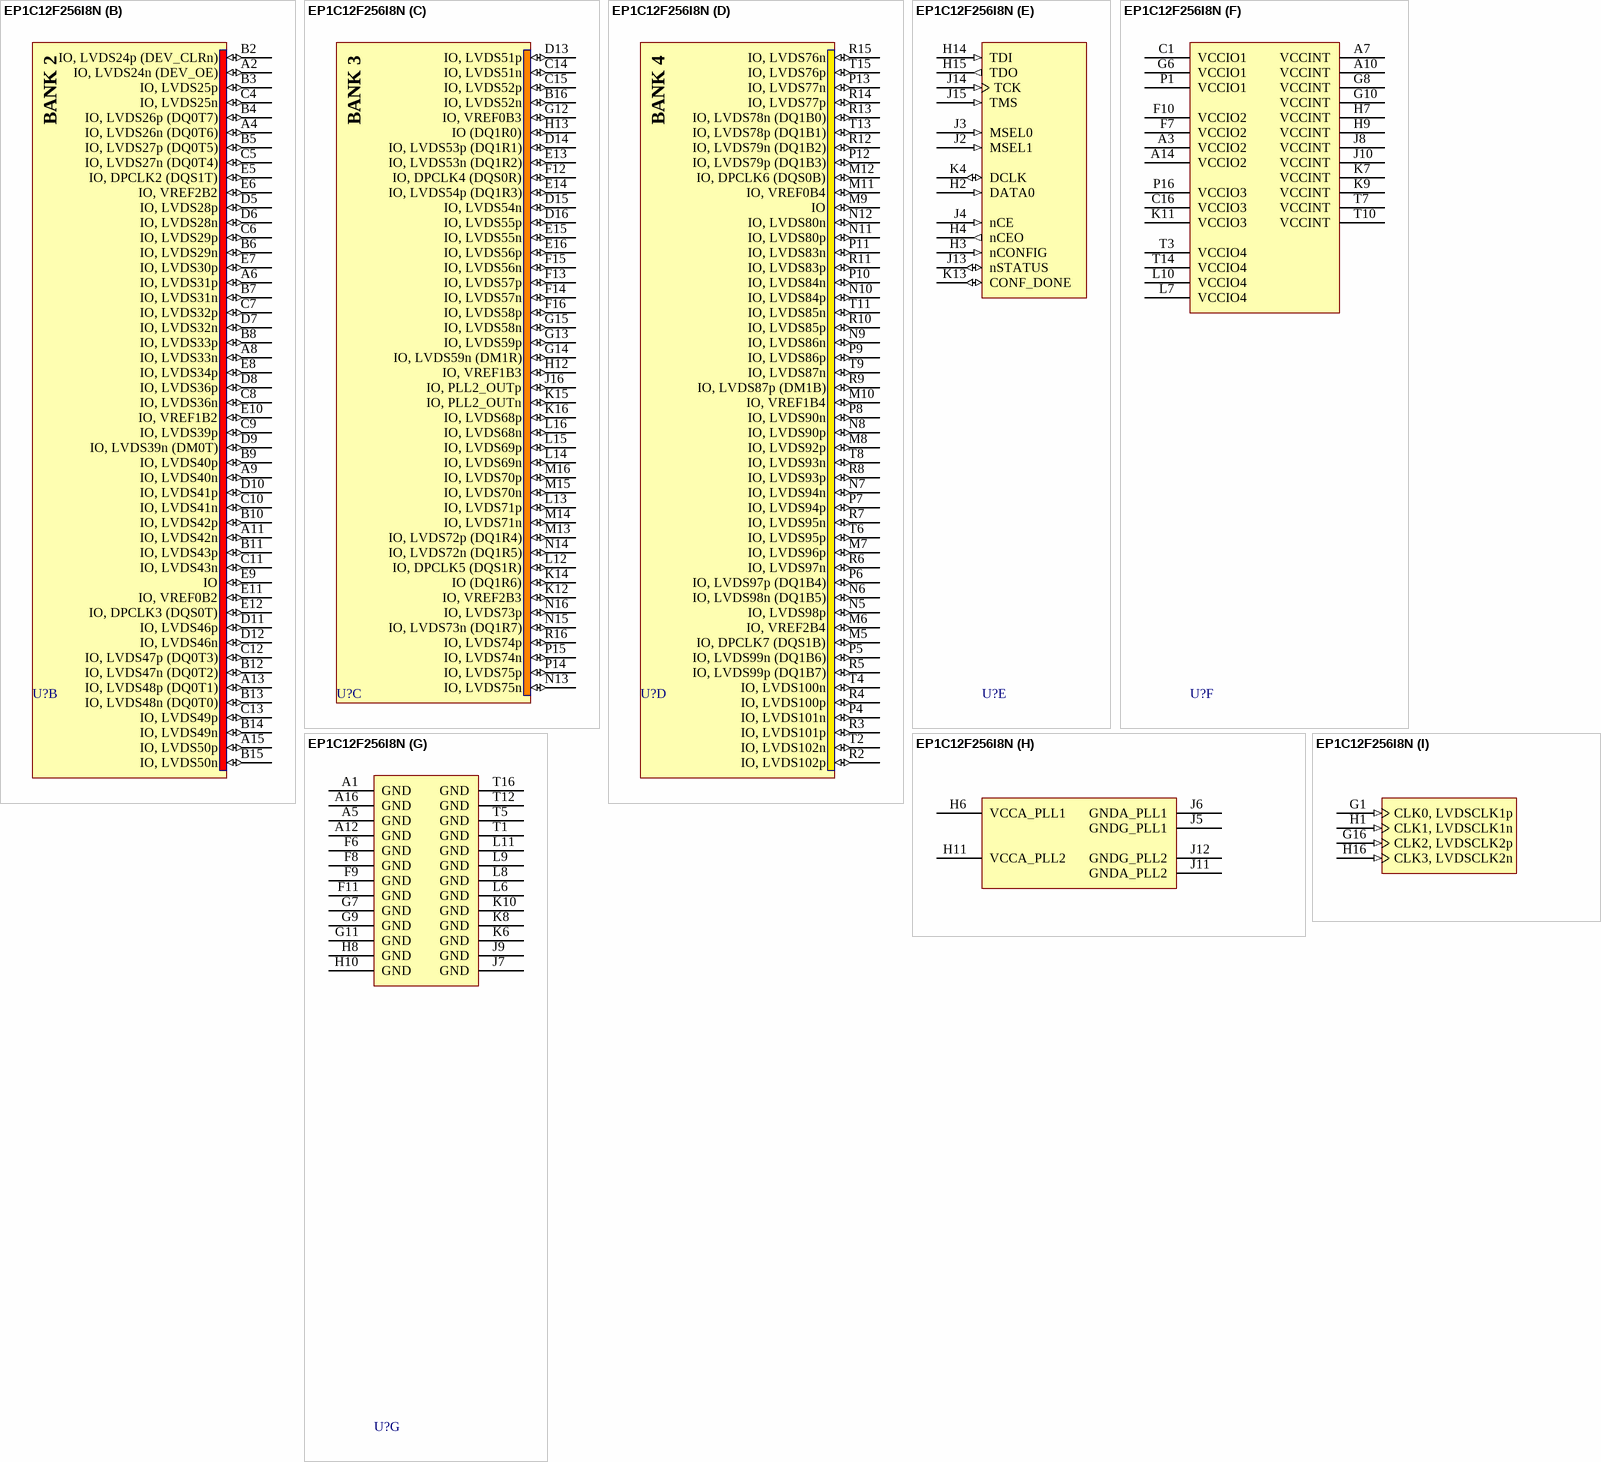
[diagram p91: symbol EP1C12F256I8N]

## EP1C12F256I8N
designator U?
Cyclone Family, 1.5V FPGA, 185 I/O Pins, 2 x PLLs, Industrial Grade, Speed Grade 8, Pb-Free; Published: 18-Aug-2005; LatestRevisionDate: 30-Mar-2007; LatestRevisionNote: DQS pin names fixed.; DatasheetVersion: ver2.4, May-2008; PackageVersion: ver16.0, Dec-2009; PackageReference: FBGA256; Publisher: Altium Limited; PackageDescription: 256-Ball FineLine Ball Grid Array (FBGA256) - Option 1 - Wire Bond; Code_JEDEC: MS-034-AAF-1; Code_IPC: BGA100P16X16-256; ComponentLink1Description: Manufacturer Link; ComponentLink1URL: http://www.altera.com/products/devices/cyclone/cyc-index.jsp; ComponentLink2Description: Handbook; ComponentLink2URL: http://www.altera.com/literature/hb/cyc/cyc_c5v1.pdf; ComponentLink3Description: Packaging Specification; ComponentLink3URL: http://www.altera.com/literature/ds/dspkg.pdf
footprint FBGA256 (BGA, 256-Leads, Body 17x17mm, Pitch 1mm)
3D model EP1C12-FBGA256 (256-Ball FineLine Ball Grid Array (FBGA256) - Option 1 - Wire Bond)
signal-integrity model 1c (Cyclone)
part A pins: B1 IO, LVDS22n (io), C2 IO, LVDS22p (CLKUSR) (io), C3 IO, LVDS23n (CRC_ERROR) (io), D1 IO, LVDS19n (io), D2 IO, LVDS20n (DQ0L3) (io), D3 IO, LVDS21p (DQ0L0) (io), D4 IO, LVDS23p (INIT_DONE) (io), E1 IO, LVDS17n (io), E2 IO, LVDS19p (io), E3 IO, LVDS20p (DQ0L2) (io), E4 IO, LVDS21n (DQ0L1) (io), F1 IO, LVDS16n (DM0L) (io), F2 IO, LVDS17p (io), F3 IO, LVDS18p (io), F4 IO (io), F5 IO, DPCLK1 (DQS0L) (io), G2 IO, LVDS16p (io), G3 IO, LVDS18n (io), G4 IO (nCSO) (io), G5 IO, VREF0B1 (io), H5 IO, VREF1B1 (io), J1 IO, PLL1_OUTp (io), K1 IO, LVDS6p (io), K2 IO, PLL1_OUTn (io), K3 IO (ASDO) (io), K5 IO, VREF2B1 (io), L1 IO, LVDS6n (io), L2 IO, LVDS5p (io), L3 IO, LVDS7n (io), L4 IO (io), L5 IO, DPCLK0 (DQS1L) (io), M1 IO, LVDS5n (io), M2 IO, LVDS4n (io), M3 IO, LVDS3n (DQ0L5) (io), M4 IO, LVDS2p (DQ0L6) (io), N1 IO, LVDS4p (io), N2 IO, LVDS3p (DQ0L4) (io), N3 IO, LVDS2n (DQ0L7) (io), N4 IO, LVDS0n (io), P2 IO, LVDS1n (io), P3 IO, LVDS0p (io), R1 IO, LVDS1p (io)
part B pins: A2 IO, LVDS24n (DEV_OE) (io), A4 IO, LVDS26n (DQ0T6) (io), A6 IO, LVDS31p (io), A8 IO, LVDS33n (io), A9 IO, LVDS40n (io), A11 IO, LVDS42n (io), A13 IO, LVDS48p (DQ0T1) (io), A15 IO, LVDS50p (io), B2 IO, LVDS24p (DEV_CLRn) (io), B3 IO, LVDS25p (io), B4 IO, LVDS26p (DQ0T7) (io), B5 IO, LVDS27p (DQ0T5) (io), B6 IO, LVDS29n (io), B7 IO, LVDS31n (io), B8 IO, LVDS33p (io), B9 IO, LVDS40p (io), B10 IO, LVDS42p (io), B11 IO, LVDS43p (io), B12 IO, LVDS47n (DQ0T2) (io), B13 IO, LVDS48n (DQ0T0) (io), B14 IO, LVDS49n (io), B15 IO, LVDS50n (io), C4 IO, LVDS25n (io), C5 IO, LVDS27n (DQ0T4) (io), C6 IO, LVDS29p (io), C7 IO, LVDS32p (io), C8 IO, LVDS36n (io), C9 IO, LVDS39p (io), C10 IO, LVDS41n (io), C11 IO, LVDS43n (io), C12 IO, LVDS47p (DQ0T3) (io), C13 IO, LVDS49p (io), D5 IO, LVDS28p (io), D6 IO, LVDS28n (io), D7 IO, LVDS32n (io), D8 IO, LVDS36p (io), D9 IO, LVDS39n (DM0T) (io), D10 IO, LVDS41p (io), D11 IO, LVDS46p (io), D12 IO, LVDS46n (io), E5 IO, DPCLK2 (DQS1T) (io), E6 IO, VREF2B2 (io), E7 IO, LVDS30p (io), E8 IO, LVDS34p (io), E9 IO (io), E10 IO, VREF1B2 (io), E11 IO, VREF0B2 (io), E12 IO, DPCLK3 (DQS0T) (io)
part C pins: B16 IO, LVDS52n (io), C14 IO, LVDS51n (io), C15 IO, LVDS52p (io), D13 IO, LVDS51p (io), D14 IO, LVDS53p (DQ1R1) (io), D15 IO, LVDS54n (io), D16 IO, LVDS55p (io), E13 IO, LVDS53n (DQ1R2) (io), E14 IO, LVDS54p (DQ1R3) (io), E15 IO, LVDS55n (io), E16 IO, LVDS56p (io), F12 IO, DPCLK4 (DQS0R) (io), F13 IO, LVDS57p (io), F14 IO, LVDS57n (io), F15 IO, LVDS56n (io), F16 IO, LVDS58p (io), G12 IO, VREF0B3 (io), G13 IO, LVDS59p (io), G14 IO, LVDS59n (DM1R) (io), G15 IO, LVDS58n (io), H12 IO, VREF1B3 (io), H13 IO (DQ1R0) (io), J16 IO, PLL2_OUTp (io), K12 IO, VREF2B3 (io), K14 IO (DQ1R6) (io), K15 IO, PLL2_OUTn (io), K16 IO, LVDS68p (io), L12 IO, DPCLK5 (DQS1R) (io), L13 IO, LVDS71p (io), L14 IO, LVDS69n (io), L15 IO, LVDS69p (io), L16 IO, LVDS68n (io), M13 IO, LVDS72p (DQ1R4) (io), M14 IO, LVDS71n (io), M15 IO, LVDS70n (io), M16 IO, LVDS70p (io), N13 IO, LVDS75n (io), N14 IO, LVDS72n (DQ1R5) (io), N15 IO, LVDS73n (DQ1R7) (io), N16 IO, LVDS73p (io), P14 IO, LVDS75p (io), P15 IO, LVDS74n (io), R16 IO, LVDS74p (io)
part D pins: M5 IO, DPCLK7 (DQS1B) (io), M6 IO, VREF2B4 (io), M7 IO, LVDS96p (io), M8 IO, LVDS92p (io), M9 IO (io), M10 IO, VREF1B4 (io), M11 IO, VREF0B4 (io), M12 IO, DPCLK6 (DQS0B) (io), N5 IO, LVDS98p (io), N6 IO, LVDS98n (DQ1B5) (io), N7 IO, LVDS94n (io), N8 IO, LVDS90p (io), N9 IO, LVDS86n (io), N10 IO, LVDS84p (io), N11 IO, LVDS80p (io), N12 IO, LVDS80n (io), P4 IO, LVDS101n (io), P5 IO, LVDS99n (DQ1B6) (io), P6 IO, LVDS97p (DQ1B4) (io), P7 IO, LVDS94p (io), P8 IO, LVDS90n (io), P9 IO, LVDS86p (io), P10 IO, LVDS84n (io), P11 IO, LVDS83n (io), P12 IO, LVDS79p (DQ1B3) (io), P13 IO, LVDS77n (io), R2 IO, LVDS102p (io), R3 IO, LVDS101p (io), R4 IO, LVDS100p (io), R5 IO, LVDS99p (DQ1B7) (io), R6 IO, LVDS97n (io), R7 IO, LVDS95n (io), R8 IO, LVDS93p (io), R9 IO, LVDS87p (DM1B) (io), R10 IO, LVDS85p (io), R11 IO, LVDS83p (io), R12 IO, LVDS79n (DQ1B2) (io), R13 IO, LVDS78n (DQ1B0) (io), R14 IO, LVDS77p (io), R15 IO, LVDS76n (io), T2 IO, LVDS102n (io), T4 IO, LVDS100n (io), T6 IO, LVDS95p (io), T8 IO, LVDS93n (io), T9 IO, LVDS87n (io), T11 IO, LVDS85n (io), T13 IO, LVDS78p (DQ1B1) (io), T15 IO, LVDS76p (io)
part E pins: H2 DATA0 (in), H3 nCONFIG (in), H4 nCEO (out), H14 TDI (in), H15 TDO (out), J2 MSEL1 (in), J3 MSEL0 (in), J4 nCE (in), J13 nSTATUS (io), J14 TCK (in), J15 TMS (in), K4 DCLK (io), K13 CONF_DONE (io)
part F pins: A3 VCCIO2 (power), A7 VCCINT (power), A10 VCCINT (power), A14 VCCIO2 (power), C1 VCCIO1 (power), C16 VCCIO3 (power), F7 VCCIO2 (power), F10 VCCIO2 (power), G6 VCCIO1 (power), G8 VCCINT (power), G10 VCCINT (power), H7 VCCINT (power), H9 VCCINT (power), J8 VCCINT (power), J10 VCCINT (power), K7 VCCINT (power), K9 VCCINT (power), K11 VCCIO3 (power), L7 VCCIO4 (power), L10 VCCIO4 (power), P1 VCCIO1 (power), P16 VCCIO3 (power), T3 VCCIO4 (power), T7 VCCINT (power), T10 VCCINT (power), T14 VCCIO4 (power)
part G pins: A1 GND (power), A5 GND (power), A12 GND (power), A16 GND (power), F6 GND (power), F8 GND (power), F9 GND (power), F11 GND (power), G7 GND (power), G9 GND (power), G11 GND (power), H8 GND (power), H10 GND (power), J7 GND (power), J9 GND (power), K6 GND (power), K8 GND (power), K10 GND (power), L6 GND (power), L8 GND (power), L9 GND (power), L11 GND (power), T1 GND (power), T5 GND (power), T12 GND (power), T16 GND (power)
part H pins: H6 VCCA_PLL1 (power), H11 VCCA_PLL2 (power), J5 GNDG_PLL1 (power), J6 GNDA_PLL1 (power), J11 GNDA_PLL2 (power), J12 GNDG_PLL2 (power)
part I pins: G1 CLK0, LVDSCLK1p (in), G16 CLK2, LVDSCLK2p (in), H1 CLK1, LVDSCLK1n (in), H16 CLK3, LVDSCLK2n (in)
part A text: BANK 1
part B text: BANK 2
part C text: BANK 3
part D text: BANK 4

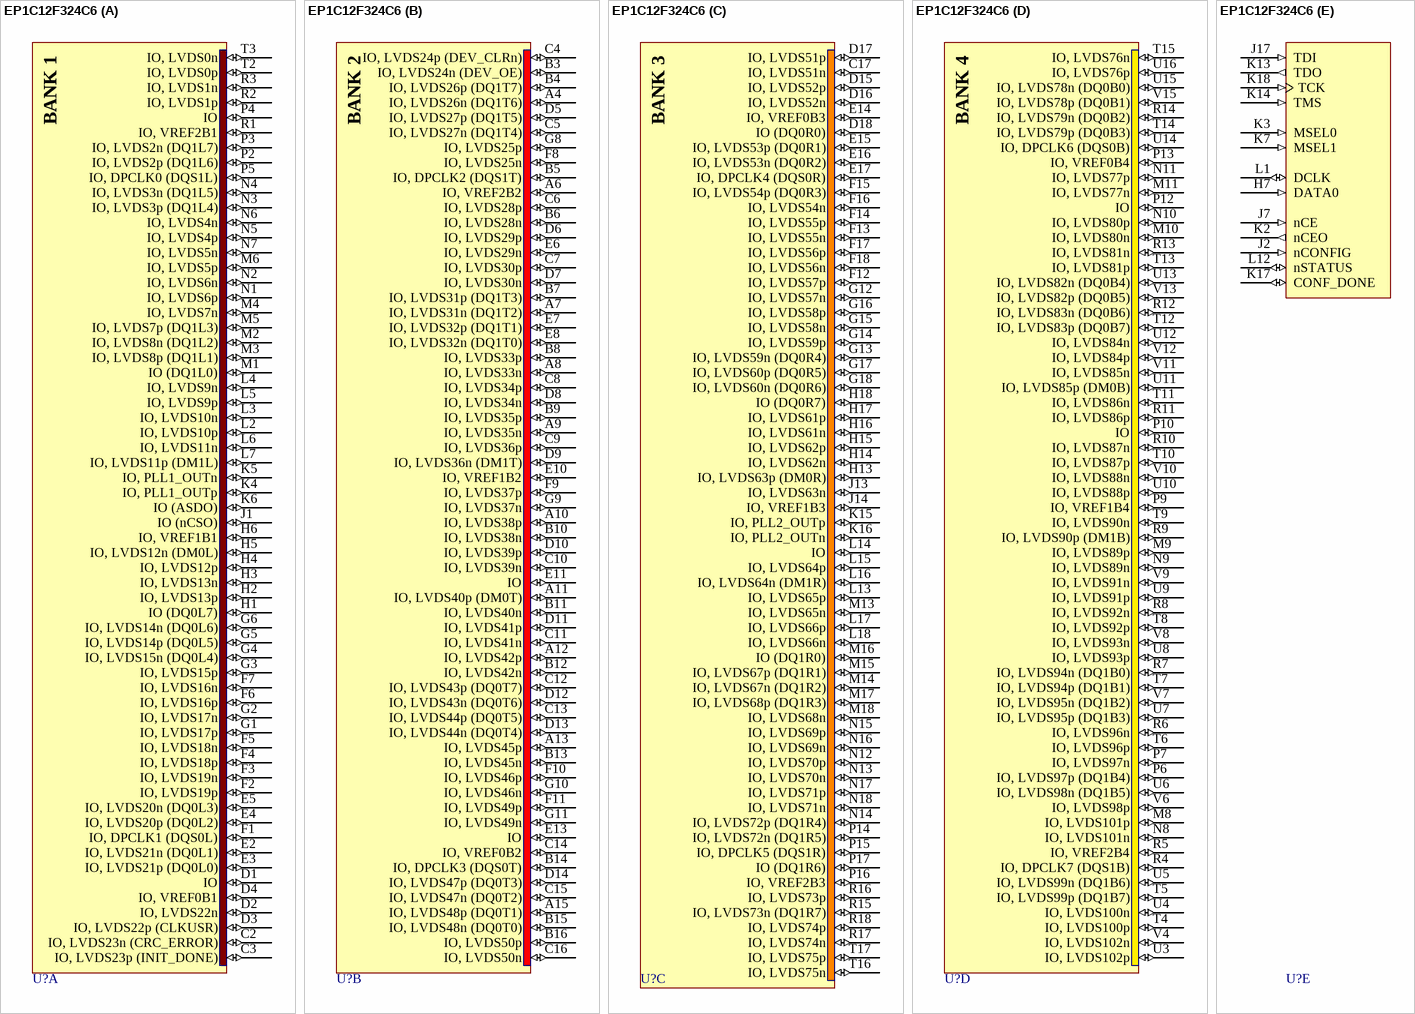
[diagram p92: symbol EP1C12F324C6]

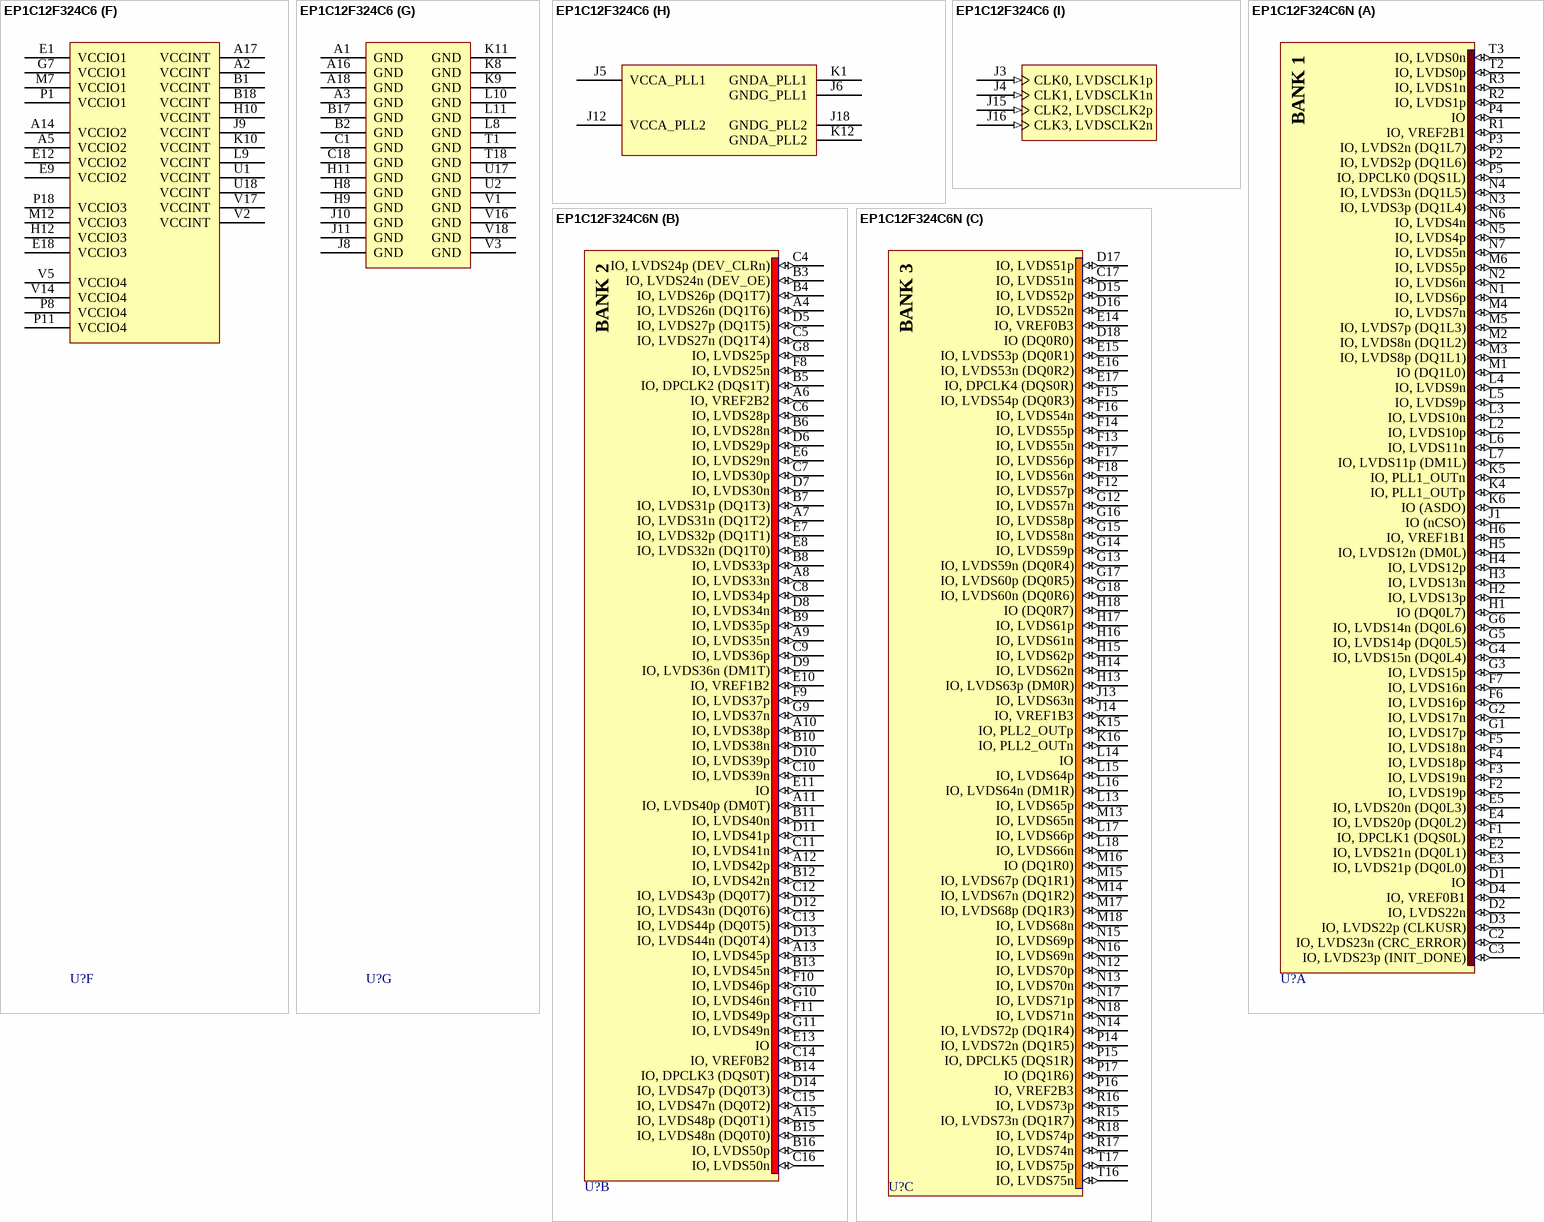
[diagram p93: symbols EP1C12F324C6 to EP1C12F324C6N]

## EP1C12F324C6
designator U?
Cyclone Family, 1.5V FPGA, 249 I/O Pins, 2 x PLLs, Commercial Grade, Speed Grade 6; Published: 17-Sep-2003; LatestRevisionDate: 13-Apr-2006; LatestRevisionNote: Pin C2 name fix, IPC-7351 Footprint Added.; DatasheetVersion: ver2.4, May-2008; PackageVersion: ver16.0, Dec-2009; PackageReference: FBGA324; Publisher: Altium Limited; PackageDescription: 324-Ball FineLine Ball Grid Array (FBGA324) - Wire Bond; Supplier 1: Digi-Key; Supplier Part Number 1: 544-1034-ND; Code_JEDEC: MS-034-AAG-1; Code_IPC: BGA100P18X18-324; ComponentLink1Description: Manufacturer Link; ComponentLink1URL: http://www.altera.com/products/devices/cyclone/cyc-index.jsp; ComponentLink2Description: Handbook; ComponentLink2URL: http://www.altera.com/literature/hb/cyc/cyc_c5v1.pdf; ComponentLink3Description: Packaging Specification; ComponentLink3URL: http://www.altera.com/literature/ds/dspkg.pdf
footprint FBGA324 (BGA, 324-Leads, Body 19x19mm, Pitch 1mm)
3D model EP1C12-FBGA324 (324-Ball FineLine Ball Grid Array (FBGA324) - Wire Bond)
signal-integrity model 1c (Cyclone)
part A pins: C2 IO, LVDS23n (CRC_ERROR) (io), C3 IO, LVDS23p (INIT_DONE) (io), D1 IO (io), D2 IO, LVDS22n (io), D3 IO, LVDS22p (CLKUSR) (io), D4 IO, VREF0B1 (io), E2 IO, LVDS21n (DQ0L1) (io), E3 IO, LVDS21p (DQ0L0) (io), E4 IO, LVDS20p (DQ0L2) (io), E5 IO, LVDS20n (DQ0L3) (io), F1 IO, DPCLK1 (DQS0L) (io), F2 IO, LVDS19p (io), F3 IO, LVDS19n (io), F4 IO, LVDS18p (io), F5 IO, LVDS18n (io), F6 IO, LVDS16p (io), F7 IO, LVDS16n (io), G1 IO, LVDS17p (io), G2 IO, LVDS17n (io), G3 IO, LVDS15p (io), G4 IO, LVDS15n (DQ0L4) (io), G5 IO, LVDS14p (DQ0L5) (io), G6 IO, LVDS14n (DQ0L6) (io), H1 IO (DQ0L7) (io), H2 IO, LVDS13p (io), H3 IO, LVDS13n (io), H4 IO, LVDS12p (io), H5 IO, LVDS12n (DM0L) (io), H6 IO, VREF1B1 (io), J1 IO (nCSO) (io), K4 IO, PLL1_OUTp (io), K5 IO, PLL1_OUTn (io), K6 IO (ASDO) (io), L2 IO, LVDS10p (io), L3 IO, LVDS10n (io), L4 IO, LVDS9n (io), L5 IO, LVDS9p (io), L6 IO, LVDS11n (io), L7 IO, LVDS11p (DM1L) (io), M1 IO (DQ1L0) (io), M2 IO, LVDS8n (DQ1L2) (io), M3 IO, LVDS8p (DQ1L1) (io), M4 IO, LVDS7n (io), M5 IO, LVDS7p (DQ1L3) (io), M6 IO, LVDS5p (io), N1 IO, LVDS6p (io), N2 IO, LVDS6n (io), N3 IO, LVDS3p (DQ1L4) (io), N4 IO, LVDS3n (DQ1L5) (io), N5 IO, LVDS4p (io), N6 IO, LVDS4n (io), N7 IO, LVDS5n (io), P2 IO, LVDS2p (DQ1L6) (io), P3 IO, LVDS2n (DQ1L7) (io), P4 IO (io), P5 IO, DPCLK0 (DQS1L) (io), R1 IO, VREF2B1 (io), R2 IO, LVDS1p (io), R3 IO, LVDS1n (io), T2 IO, LVDS0p (io), T3 IO, LVDS0n (io)
part B pins: A4 IO, LVDS26n (DQ1T6) (io), A6 IO, VREF2B2 (io), A7 IO, LVDS31n (DQ1T2) (io), A8 IO, LVDS33n (io), A9 IO, LVDS35n (io), A10 IO, LVDS38p (io), A11 IO, LVDS40p (DM0T) (io), A12 IO, LVDS42p (io), A13 IO, LVDS45p (io), A15 IO, LVDS48p (DQ0T1) (io), B3 IO, LVDS24n (DEV_OE) (io), B4 IO, LVDS26p (DQ1T7) (io), B5 IO, DPCLK2 (DQS1T) (io), B6 IO, LVDS28n (io), B7 IO, LVDS31p (DQ1T3) (io), B8 IO, LVDS33p (io), B9 IO, LVDS35p (io), B10 IO, LVDS38n (io), B11 IO, LVDS40n (io), B12 IO, LVDS42n (io), B13 IO, LVDS45n (io), B14 IO, DPCLK3 (DQS0T) (io), B15 IO, LVDS48n (DQ0T0) (io), B16 IO, LVDS50p (io), C4 IO, LVDS24p (DEV_CLRn) (io), C5 IO, LVDS27n (DQ1T4) (io), C6 IO, LVDS28p (io), C7 IO, LVDS30p (io), C8 IO, LVDS34p (io), C9 IO, LVDS36p (io), C10 IO, LVDS39n (io), C11 IO, LVDS41n (io), C12 IO, LVDS43p (DQ0T7) (io), C13 IO, LVDS44p (DQ0T5) (io), C14 IO, VREF0B2 (io), C15 IO, LVDS47n (DQ0T2) (io), C16 IO, LVDS50n (io), D5 IO, LVDS27p (DQ1T5) (io), D6 IO, LVDS29p (io), D7 IO, LVDS30n (io), D8 IO, LVDS34n (io), D9 IO, LVDS36n (DM1T) (io), D10 IO, LVDS39p (io), D11 IO, LVDS41p (io), D12 IO, LVDS43n (DQ0T6) (io), D13 IO, LVDS44n (DQ0T4) (io), D14 IO, LVDS47p (DQ0T3) (io), E6 IO, LVDS29n (io), E7 IO, LVDS32p (DQ1T1) (io), E8 IO, LVDS32n (DQ1T0) (io), E10 IO, VREF1B2 (io), E11 IO (io), E13 IO (io), F8 IO, LVDS25n (io), F9 IO, LVDS37p (io), F10 IO, LVDS46p (io), F11 IO, LVDS49p (io), G8 IO, LVDS25p (io), G9 IO, LVDS37n (io), G10 IO, LVDS46n (io), G11 IO, LVDS49n (io)
part C pins: C17 IO, LVDS51n (io), D15 IO, LVDS52p (io), D16 IO, LVDS52n (io), D17 IO, LVDS51p (io), D18 IO (DQ0R0) (io), E14 IO, VREF0B3 (io), E15 IO, LVDS53p (DQ0R1) (io), E16 IO, LVDS53n (DQ0R2) (io), E17 IO, DPCLK4 (DQS0R) (io), F12 IO, LVDS57p (io), F13 IO, LVDS55n (io), F14 IO, LVDS55p (io), F15 IO, LVDS54p (DQ0R3) (io), F16 IO, LVDS54n (io), F17 IO, LVDS56p (io), F18 IO, LVDS56n (io), G12 IO, LVDS57n (io), G13 IO, LVDS59n (DQ0R4) (io), G14 IO, LVDS59p (io), G15 IO, LVDS58n (io), G16 IO, LVDS58p (io), G17 IO, LVDS60p (DQ0R5) (io), G18 IO, LVDS60n (DQ0R6) (io), H13 IO, LVDS63p (DM0R) (io), H14 IO, LVDS62n (io), H15 IO, LVDS62p (io), H16 IO, LVDS61n (io), H17 IO, LVDS61p (io), H18 IO (DQ0R7) (io), J13 IO, LVDS63n (io), J14 IO, VREF1B3 (io), K15 IO, PLL2_OUTp (io), K16 IO, PLL2_OUTn (io), L13 IO, LVDS65p (io), L14 IO (io), L15 IO, LVDS64p (io), L16 IO, LVDS64n (DM1R) (io), L17 IO, LVDS66p (io), L18 IO, LVDS66n (io), M13 IO, LVDS65n (io), M14 IO, LVDS67n (DQ1R2) (io), M15 IO, LVDS67p (DQ1R1) (io), M16 IO (DQ1R0) (io), M17 IO, LVDS68p (DQ1R3) (io), M18 IO, LVDS68n (io), N12 IO, LVDS70p (io), N13 IO, LVDS70n (io), N14 IO, LVDS72p (DQ1R4) (io), N15 IO, LVDS69p (io), N16 IO, LVDS69n (io), N17 IO, LVDS71p (io), N18 IO, LVDS71n (io), P14 IO, LVDS72n (DQ1R5) (io), P15 IO, DPCLK5 (DQS1R) (io), P16 IO, VREF2B3 (io), P17 IO (DQ1R6) (io), R15 IO, LVDS73n (DQ1R7) (io), R16 IO, LVDS73p (io), R17 IO, LVDS74n (io), R18 IO, LVDS74p (io), T16 IO, LVDS75n (io), T17 IO, LVDS75p (io)
part D pins: M8 IO, LVDS101p (io), M9 IO, LVDS89p (io), M10 IO, LVDS80n (io), M11 IO, LVDS77n (io), N8 IO, LVDS101n (io), N9 IO, LVDS89n (io), N10 IO, LVDS80p (io), N11 IO, LVDS77p (io), P6 IO, LVDS97p (DQ1B4) (io), P7 IO, LVDS97n (io), P9 IO, VREF1B4 (io), P10 IO (io), P12 IO (io), P13 IO, VREF0B4 (io), R4 IO, DPCLK7 (DQS1B) (io), R5 IO, VREF2B4 (io), R6 IO, LVDS96n (io), R7 IO, LVDS94n (DQ1B0) (io), R8 IO, LVDS92n (io), R9 IO, LVDS90p (DM1B) (io), R10 IO, LVDS87n (io), R11 IO, LVDS86p (io), R12 IO, LVDS83n (DQ0B6) (io), R13 IO, LVDS81n (io), R14 IO, LVDS79n (DQ0B2) (io), T4 IO, LVDS100p (io), T5 IO, LVDS99p (DQ1B7) (io), T6 IO, LVDS96p (io), T7 IO, LVDS94p (DQ1B1) (io), T8 IO, LVDS92p (io), T9 IO, LVDS90n (io), T10 IO, LVDS87p (io), T11 IO, LVDS86n (io), T12 IO, LVDS83p (DQ0B7) (io), T13 IO, LVDS81p (io), T14 IO, LVDS79p (DQ0B3) (io), T15 IO, LVDS76n (io), U3 IO, LVDS102p (io), U4 IO, LVDS100n (io), U5 IO, LVDS99n (DQ1B6) (io), U6 IO, LVDS98n (DQ1B5) (io), U7 IO, LVDS95p (DQ1B3) (io), U8 IO, LVDS93p (io), U9 IO, LVDS91p (io), U10 IO, LVDS88p (io), U11 IO, LVDS85p (DM0B) (io), U12 IO, LVDS84n (io), U13 IO, LVDS82n (DQ0B4) (io), U14 IO, DPCLK6 (DQS0B) (io), U15 IO, LVDS78n (DQ0B0) (io), U16 IO, LVDS76p (io), V4 IO, LVDS102n (io), V6 IO, LVDS98p (io), V7 IO, LVDS95n (DQ1B2) (io), V8 IO, LVDS93n (io), V9 IO, LVDS91n (io), V10 IO, LVDS88n (io), V11 IO, LVDS85n (io), V12 IO, LVDS84p (io), V13 IO, LVDS82p (DQ0B5) (io), V15 IO, LVDS78p (DQ0B1) (io)
part E pins: H7 DATA0 (in), J2 nCONFIG (in), J7 nCE (in), J17 TDI (in), K2 nCEO (out), K3 MSEL0 (in), K7 MSEL1 (in), K13 TDO (out), K14 TMS (in), K17 CONF_DONE (io), K18 TCK (in), L1 DCLK (io), L12 nSTATUS (io)
part F pins: A2 VCCINT (power), A5 VCCIO2 (power), A14 VCCIO2 (power), A17 VCCINT (power), B1 VCCINT (power), B18 VCCINT (power), E1 VCCIO1 (power), E9 VCCIO2 (power), E12 VCCIO2 (power), E18 VCCIO3 (power), G7 VCCIO1 (power), H10 VCCINT (power), H12 VCCIO3 (power), J9 VCCINT (power), K10 VCCINT (power), L9 VCCINT (power), M7 VCCIO1 (power), M12 VCCIO3 (power), P1 VCCIO1 (power), P8 VCCIO4 (power), P11 VCCIO4 (power), P18 VCCIO3 (power), U1 VCCINT (power), U18 VCCINT (power), V2 VCCINT (power), V5 VCCIO4 (power), V14 VCCIO4 (power), V17 VCCINT (power)
part G pins: A1 GND (power), A3 GND (power), A16 GND (power), A18 GND (power), B2 GND (power), B17 GND (power), C1 GND (power), C18 GND (power), H8 GND (power), H9 GND (power), H11 GND (power), J8 GND (power), J10 GND (power), J11 GND (power), K8 GND (power), K9 GND (power), K11 GND (power), L8 GND (power), L10 GND (power), L11 GND (power), T1 GND (power), T18 GND (power), U2 GND (power), U17 GND (power), V1 GND (power), V3 GND (power), V16 GND (power), V18 GND (power)
part H pins: J5 VCCA_PLL1 (power), J6 GNDG_PLL1 (power), J12 VCCA_PLL2 (power), J18 GNDG_PLL2 (power), K1 GNDA_PLL1 (power), K12 GNDA_PLL2 (power)
part I pins: J3 CLK0, LVDSCLK1p (in), J4 CLK1, LVDSCLK1n (in), J15 CLK2, LVDSCLK2p (in), J16 CLK3, LVDSCLK2n (in)
part A text: BANK 1
part B text: BANK 2
part C text: BANK 3
part D text: BANK 4

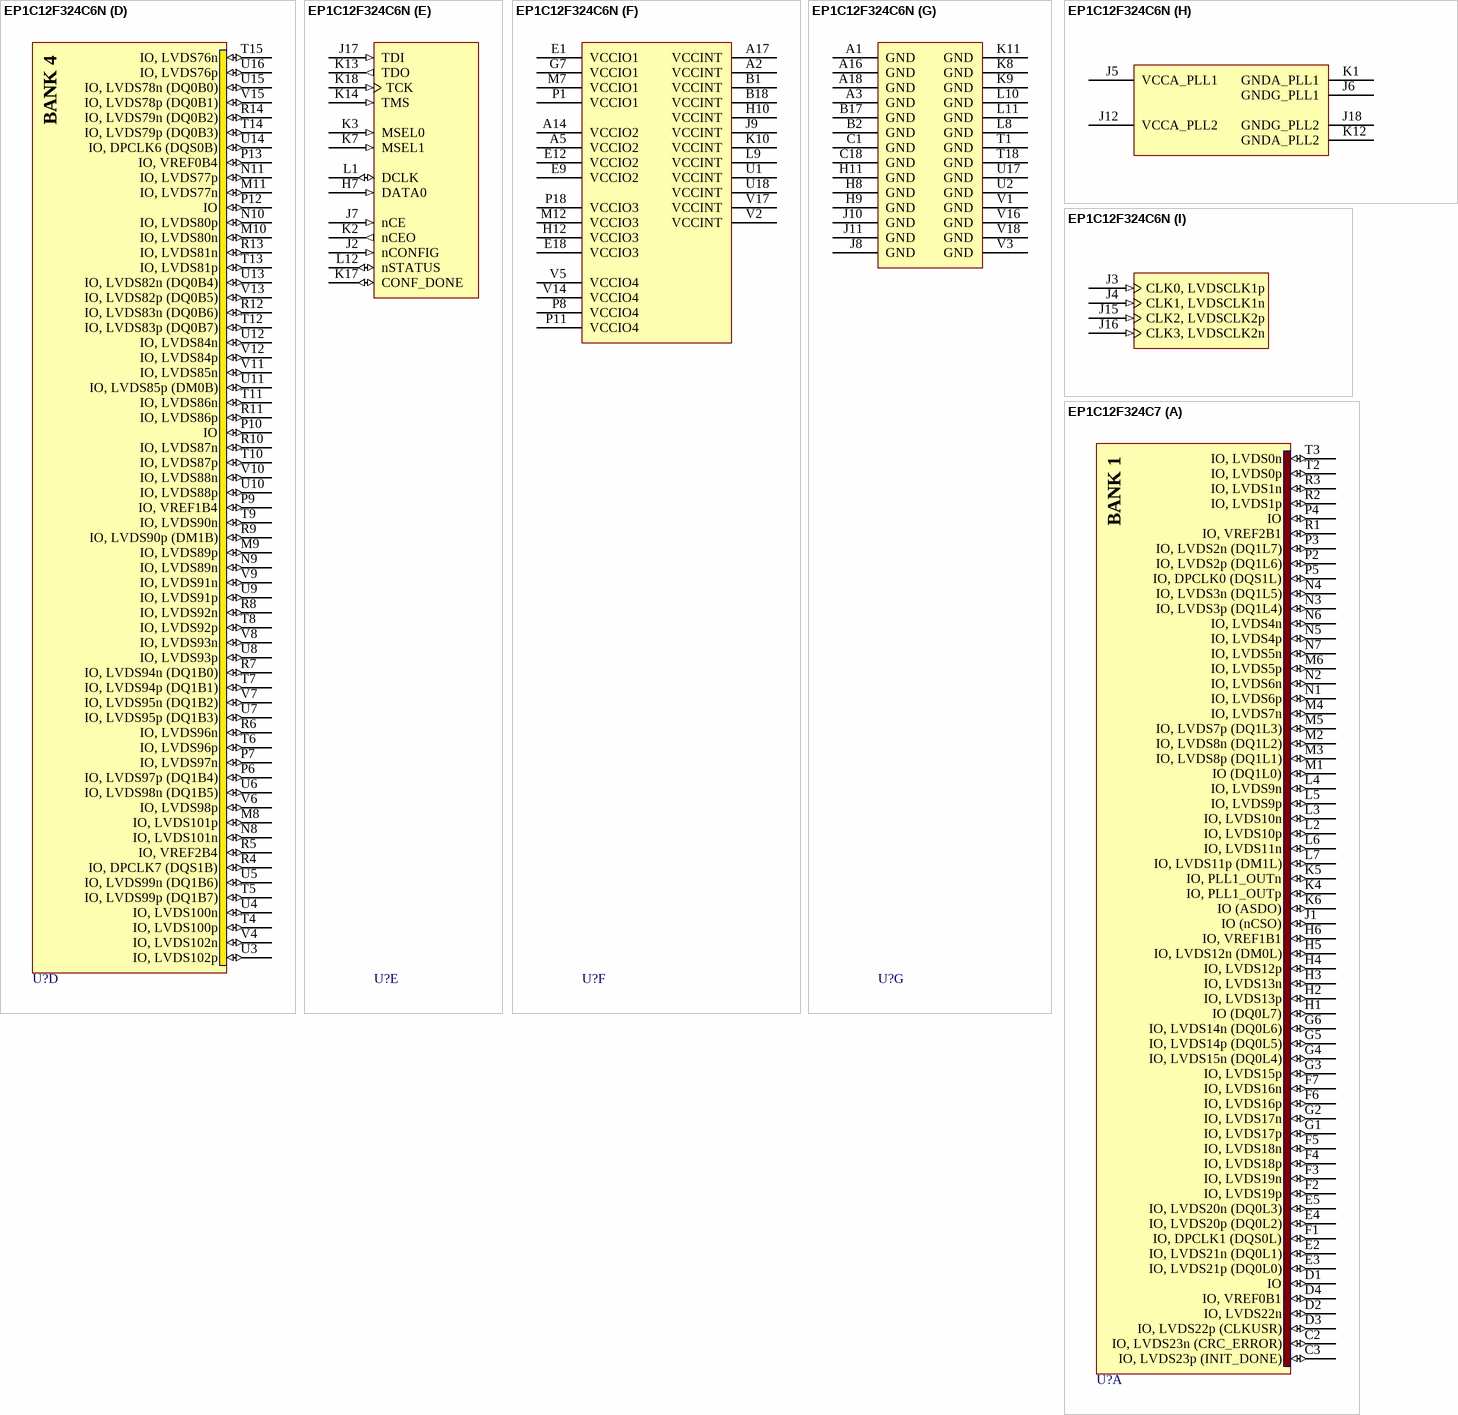
[diagram p94: symbols EP1C12F324C6N to EP1C12F324C7]

## EP1C12F324C6N
designator U?
Cyclone Family, 1.5V FPGA, 249 I/O Pins, 2 x PLLs, Commercial Grade, Speed Grade 6, Pb-Free; Published: 4-Mar-2005; LatestRevisionDate: 13-Apr-2006; LatestRevisionNote: Pin C2 name fix, IPC-7351 Footprint Added.; DatasheetVersion: ver2.4, May-2008; PackageVersion: ver16.0, Dec-2009; PackageReference: FBGA324; Publisher: Altium Limited; PackageDescription: 324-Ball FineLine Ball Grid Array (FBGA324) - Wire Bond; Supplier 1: Digi-Key; Supplier Part Number 1: 544-1680-ND; Code_JEDEC: MS-034-AAG-1; Code_IPC: BGA100P18X18-324; ComponentLink1Description: Manufacturer Link; ComponentLink1URL: http://www.altera.com/products/devices/cyclone/cyc-index.jsp; ComponentLink2Description: Handbook; ComponentLink2URL: http://www.altera.com/literature/hb/cyc/cyc_c5v1.pdf; ComponentLink3Description: Packaging Specification; ComponentLink3URL: http://www.altera.com/literature/ds/dspkg.pdf
footprint FBGA324 (BGA, 324-Leads, Body 19x19mm, Pitch 1mm)
3D model EP1C12-FBGA324 (324-Ball FineLine Ball Grid Array (FBGA324) - Wire Bond)
signal-integrity model 1c (Cyclone)
part A pins: C2 IO, LVDS23n (CRC_ERROR) (io), C3 IO, LVDS23p (INIT_DONE) (io), D1 IO (io), D2 IO, LVDS22n (io), D3 IO, LVDS22p (CLKUSR) (io), D4 IO, VREF0B1 (io), E2 IO, LVDS21n (DQ0L1) (io), E3 IO, LVDS21p (DQ0L0) (io), E4 IO, LVDS20p (DQ0L2) (io), E5 IO, LVDS20n (DQ0L3) (io), F1 IO, DPCLK1 (DQS0L) (io), F2 IO, LVDS19p (io), F3 IO, LVDS19n (io), F4 IO, LVDS18p (io), F5 IO, LVDS18n (io), F6 IO, LVDS16p (io), F7 IO, LVDS16n (io), G1 IO, LVDS17p (io), G2 IO, LVDS17n (io), G3 IO, LVDS15p (io), G4 IO, LVDS15n (DQ0L4) (io), G5 IO, LVDS14p (DQ0L5) (io), G6 IO, LVDS14n (DQ0L6) (io), H1 IO (DQ0L7) (io), H2 IO, LVDS13p (io), H3 IO, LVDS13n (io), H4 IO, LVDS12p (io), H5 IO, LVDS12n (DM0L) (io), H6 IO, VREF1B1 (io), J1 IO (nCSO) (io), K4 IO, PLL1_OUTp (io), K5 IO, PLL1_OUTn (io), K6 IO (ASDO) (io), L2 IO, LVDS10p (io), L3 IO, LVDS10n (io), L4 IO, LVDS9n (io), L5 IO, LVDS9p (io), L6 IO, LVDS11n (io), L7 IO, LVDS11p (DM1L) (io), M1 IO (DQ1L0) (io), M2 IO, LVDS8n (DQ1L2) (io), M3 IO, LVDS8p (DQ1L1) (io), M4 IO, LVDS7n (io), M5 IO, LVDS7p (DQ1L3) (io), M6 IO, LVDS5p (io), N1 IO, LVDS6p (io), N2 IO, LVDS6n (io), N3 IO, LVDS3p (DQ1L4) (io), N4 IO, LVDS3n (DQ1L5) (io), N5 IO, LVDS4p (io), N6 IO, LVDS4n (io), N7 IO, LVDS5n (io), P2 IO, LVDS2p (DQ1L6) (io), P3 IO, LVDS2n (DQ1L7) (io), P4 IO (io), P5 IO, DPCLK0 (DQS1L) (io), R1 IO, VREF2B1 (io), R2 IO, LVDS1p (io), R3 IO, LVDS1n (io), T2 IO, LVDS0p (io), T3 IO, LVDS0n (io)
part B pins: A4 IO, LVDS26n (DQ1T6) (io), A6 IO, VREF2B2 (io), A7 IO, LVDS31n (DQ1T2) (io), A8 IO, LVDS33n (io), A9 IO, LVDS35n (io), A10 IO, LVDS38p (io), A11 IO, LVDS40p (DM0T) (io), A12 IO, LVDS42p (io), A13 IO, LVDS45p (io), A15 IO, LVDS48p (DQ0T1) (io), B3 IO, LVDS24n (DEV_OE) (io), B4 IO, LVDS26p (DQ1T7) (io), B5 IO, DPCLK2 (DQS1T) (io), B6 IO, LVDS28n (io), B7 IO, LVDS31p (DQ1T3) (io), B8 IO, LVDS33p (io), B9 IO, LVDS35p (io), B10 IO, LVDS38n (io), B11 IO, LVDS40n (io), B12 IO, LVDS42n (io), B13 IO, LVDS45n (io), B14 IO, DPCLK3 (DQS0T) (io), B15 IO, LVDS48n (DQ0T0) (io), B16 IO, LVDS50p (io), C4 IO, LVDS24p (DEV_CLRn) (io), C5 IO, LVDS27n (DQ1T4) (io), C6 IO, LVDS28p (io), C7 IO, LVDS30p (io), C8 IO, LVDS34p (io), C9 IO, LVDS36p (io), C10 IO, LVDS39n (io), C11 IO, LVDS41n (io), C12 IO, LVDS43p (DQ0T7) (io), C13 IO, LVDS44p (DQ0T5) (io), C14 IO, VREF0B2 (io), C15 IO, LVDS47n (DQ0T2) (io), C16 IO, LVDS50n (io), D5 IO, LVDS27p (DQ1T5) (io), D6 IO, LVDS29p (io), D7 IO, LVDS30n (io), D8 IO, LVDS34n (io), D9 IO, LVDS36n (DM1T) (io), D10 IO, LVDS39p (io), D11 IO, LVDS41p (io), D12 IO, LVDS43n (DQ0T6) (io), D13 IO, LVDS44n (DQ0T4) (io), D14 IO, LVDS47p (DQ0T3) (io), E6 IO, LVDS29n (io), E7 IO, LVDS32p (DQ1T1) (io), E8 IO, LVDS32n (DQ1T0) (io), E10 IO, VREF1B2 (io), E11 IO (io), E13 IO (io), F8 IO, LVDS25n (io), F9 IO, LVDS37p (io), F10 IO, LVDS46p (io), F11 IO, LVDS49p (io), G8 IO, LVDS25p (io), G9 IO, LVDS37n (io), G10 IO, LVDS46n (io), G11 IO, LVDS49n (io)
part C pins: C17 IO, LVDS51n (io), D15 IO, LVDS52p (io), D16 IO, LVDS52n (io), D17 IO, LVDS51p (io), D18 IO (DQ0R0) (io), E14 IO, VREF0B3 (io), E15 IO, LVDS53p (DQ0R1) (io), E16 IO, LVDS53n (DQ0R2) (io), E17 IO, DPCLK4 (DQS0R) (io), F12 IO, LVDS57p (io), F13 IO, LVDS55n (io), F14 IO, LVDS55p (io), F15 IO, LVDS54p (DQ0R3) (io), F16 IO, LVDS54n (io), F17 IO, LVDS56p (io), F18 IO, LVDS56n (io), G12 IO, LVDS57n (io), G13 IO, LVDS59n (DQ0R4) (io), G14 IO, LVDS59p (io), G15 IO, LVDS58n (io), G16 IO, LVDS58p (io), G17 IO, LVDS60p (DQ0R5) (io), G18 IO, LVDS60n (DQ0R6) (io), H13 IO, LVDS63p (DM0R) (io), H14 IO, LVDS62n (io), H15 IO, LVDS62p (io), H16 IO, LVDS61n (io), H17 IO, LVDS61p (io), H18 IO (DQ0R7) (io), J13 IO, LVDS63n (io), J14 IO, VREF1B3 (io), K15 IO, PLL2_OUTp (io), K16 IO, PLL2_OUTn (io), L13 IO, LVDS65p (io), L14 IO (io), L15 IO, LVDS64p (io), L16 IO, LVDS64n (DM1R) (io), L17 IO, LVDS66p (io), L18 IO, LVDS66n (io), M13 IO, LVDS65n (io), M14 IO, LVDS67n (DQ1R2) (io), M15 IO, LVDS67p (DQ1R1) (io), M16 IO (DQ1R0) (io), M17 IO, LVDS68p (DQ1R3) (io), M18 IO, LVDS68n (io), N12 IO, LVDS70p (io), N13 IO, LVDS70n (io), N14 IO, LVDS72p (DQ1R4) (io), N15 IO, LVDS69p (io), N16 IO, LVDS69n (io), N17 IO, LVDS71p (io), N18 IO, LVDS71n (io), P14 IO, LVDS72n (DQ1R5) (io), P15 IO, DPCLK5 (DQS1R) (io), P16 IO, VREF2B3 (io), P17 IO (DQ1R6) (io), R15 IO, LVDS73n (DQ1R7) (io), R16 IO, LVDS73p (io), R17 IO, LVDS74n (io), R18 IO, LVDS74p (io), T16 IO, LVDS75n (io), T17 IO, LVDS75p (io)
part D pins: M8 IO, LVDS101p (io), M9 IO, LVDS89p (io), M10 IO, LVDS80n (io), M11 IO, LVDS77n (io), N8 IO, LVDS101n (io), N9 IO, LVDS89n (io), N10 IO, LVDS80p (io), N11 IO, LVDS77p (io), P6 IO, LVDS97p (DQ1B4) (io), P7 IO, LVDS97n (io), P9 IO, VREF1B4 (io), P10 IO (io), P12 IO (io), P13 IO, VREF0B4 (io), R4 IO, DPCLK7 (DQS1B) (io), R5 IO, VREF2B4 (io), R6 IO, LVDS96n (io), R7 IO, LVDS94n (DQ1B0) (io), R8 IO, LVDS92n (io), R9 IO, LVDS90p (DM1B) (io), R10 IO, LVDS87n (io), R11 IO, LVDS86p (io), R12 IO, LVDS83n (DQ0B6) (io), R13 IO, LVDS81n (io), R14 IO, LVDS79n (DQ0B2) (io), T4 IO, LVDS100p (io), T5 IO, LVDS99p (DQ1B7) (io), T6 IO, LVDS96p (io), T7 IO, LVDS94p (DQ1B1) (io), T8 IO, LVDS92p (io), T9 IO, LVDS90n (io), T10 IO, LVDS87p (io), T11 IO, LVDS86n (io), T12 IO, LVDS83p (DQ0B7) (io), T13 IO, LVDS81p (io), T14 IO, LVDS79p (DQ0B3) (io), T15 IO, LVDS76n (io), U3 IO, LVDS102p (io), U4 IO, LVDS100n (io), U5 IO, LVDS99n (DQ1B6) (io), U6 IO, LVDS98n (DQ1B5) (io), U7 IO, LVDS95p (DQ1B3) (io), U8 IO, LVDS93p (io), U9 IO, LVDS91p (io), U10 IO, LVDS88p (io), U11 IO, LVDS85p (DM0B) (io), U12 IO, LVDS84n (io), U13 IO, LVDS82n (DQ0B4) (io), U14 IO, DPCLK6 (DQS0B) (io), U15 IO, LVDS78n (DQ0B0) (io), U16 IO, LVDS76p (io), V4 IO, LVDS102n (io), V6 IO, LVDS98p (io), V7 IO, LVDS95n (DQ1B2) (io), V8 IO, LVDS93n (io), V9 IO, LVDS91n (io), V10 IO, LVDS88n (io), V11 IO, LVDS85n (io), V12 IO, LVDS84p (io), V13 IO, LVDS82p (DQ0B5) (io), V15 IO, LVDS78p (DQ0B1) (io)
part E pins: H7 DATA0 (in), J2 nCONFIG (in), J7 nCE (in), J17 TDI (in), K2 nCEO (out), K3 MSEL0 (in), K7 MSEL1 (in), K13 TDO (out), K14 TMS (in), K17 CONF_DONE (io), K18 TCK (in), L1 DCLK (io), L12 nSTATUS (io)
part F pins: A2 VCCINT (power), A5 VCCIO2 (power), A14 VCCIO2 (power), A17 VCCINT (power), B1 VCCINT (power), B18 VCCINT (power), E1 VCCIO1 (power), E9 VCCIO2 (power), E12 VCCIO2 (power), E18 VCCIO3 (power), G7 VCCIO1 (power), H10 VCCINT (power), H12 VCCIO3 (power), J9 VCCINT (power), K10 VCCINT (power), L9 VCCINT (power), M7 VCCIO1 (power), M12 VCCIO3 (power), P1 VCCIO1 (power), P8 VCCIO4 (power), P11 VCCIO4 (power), P18 VCCIO3 (power), U1 VCCINT (power), U18 VCCINT (power), V2 VCCINT (power), V5 VCCIO4 (power), V14 VCCIO4 (power), V17 VCCINT (power)
part G pins: A1 GND (power), A3 GND (power), A16 GND (power), A18 GND (power), B2 GND (power), B17 GND (power), C1 GND (power), C18 GND (power), H8 GND (power), H9 GND (power), H11 GND (power), J8 GND (power), J10 GND (power), J11 GND (power), K8 GND (power), K9 GND (power), K11 GND (power), L8 GND (power), L10 GND (power), L11 GND (power), T1 GND (power), T18 GND (power), U2 GND (power), U17 GND (power), V1 GND (power), V3 GND (power), V16 GND (power), V18 GND (power)
part H pins: J5 VCCA_PLL1 (power), J6 GNDG_PLL1 (power), J12 VCCA_PLL2 (power), J18 GNDG_PLL2 (power), K1 GNDA_PLL1 (power), K12 GNDA_PLL2 (power)
part I pins: J3 CLK0, LVDSCLK1p (in), J4 CLK1, LVDSCLK1n (in), J15 CLK2, LVDSCLK2p (in), J16 CLK3, LVDSCLK2n (in)
part A text: BANK 1
part B text: BANK 2
part C text: BANK 3
part D text: BANK 4

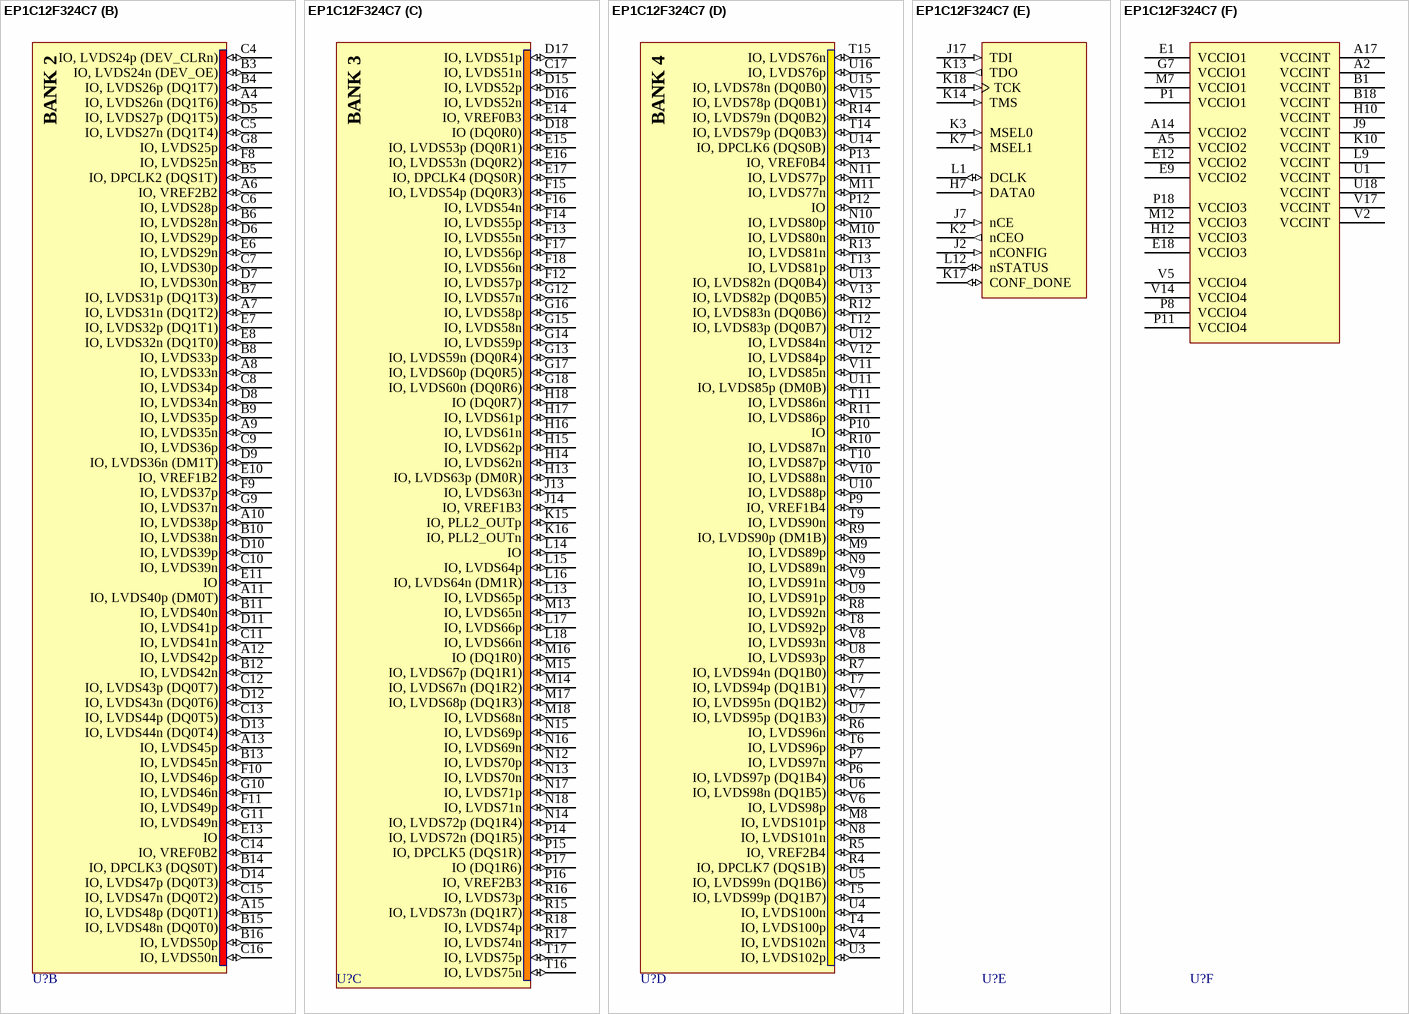
[diagram p95: symbol EP1C12F324C7]

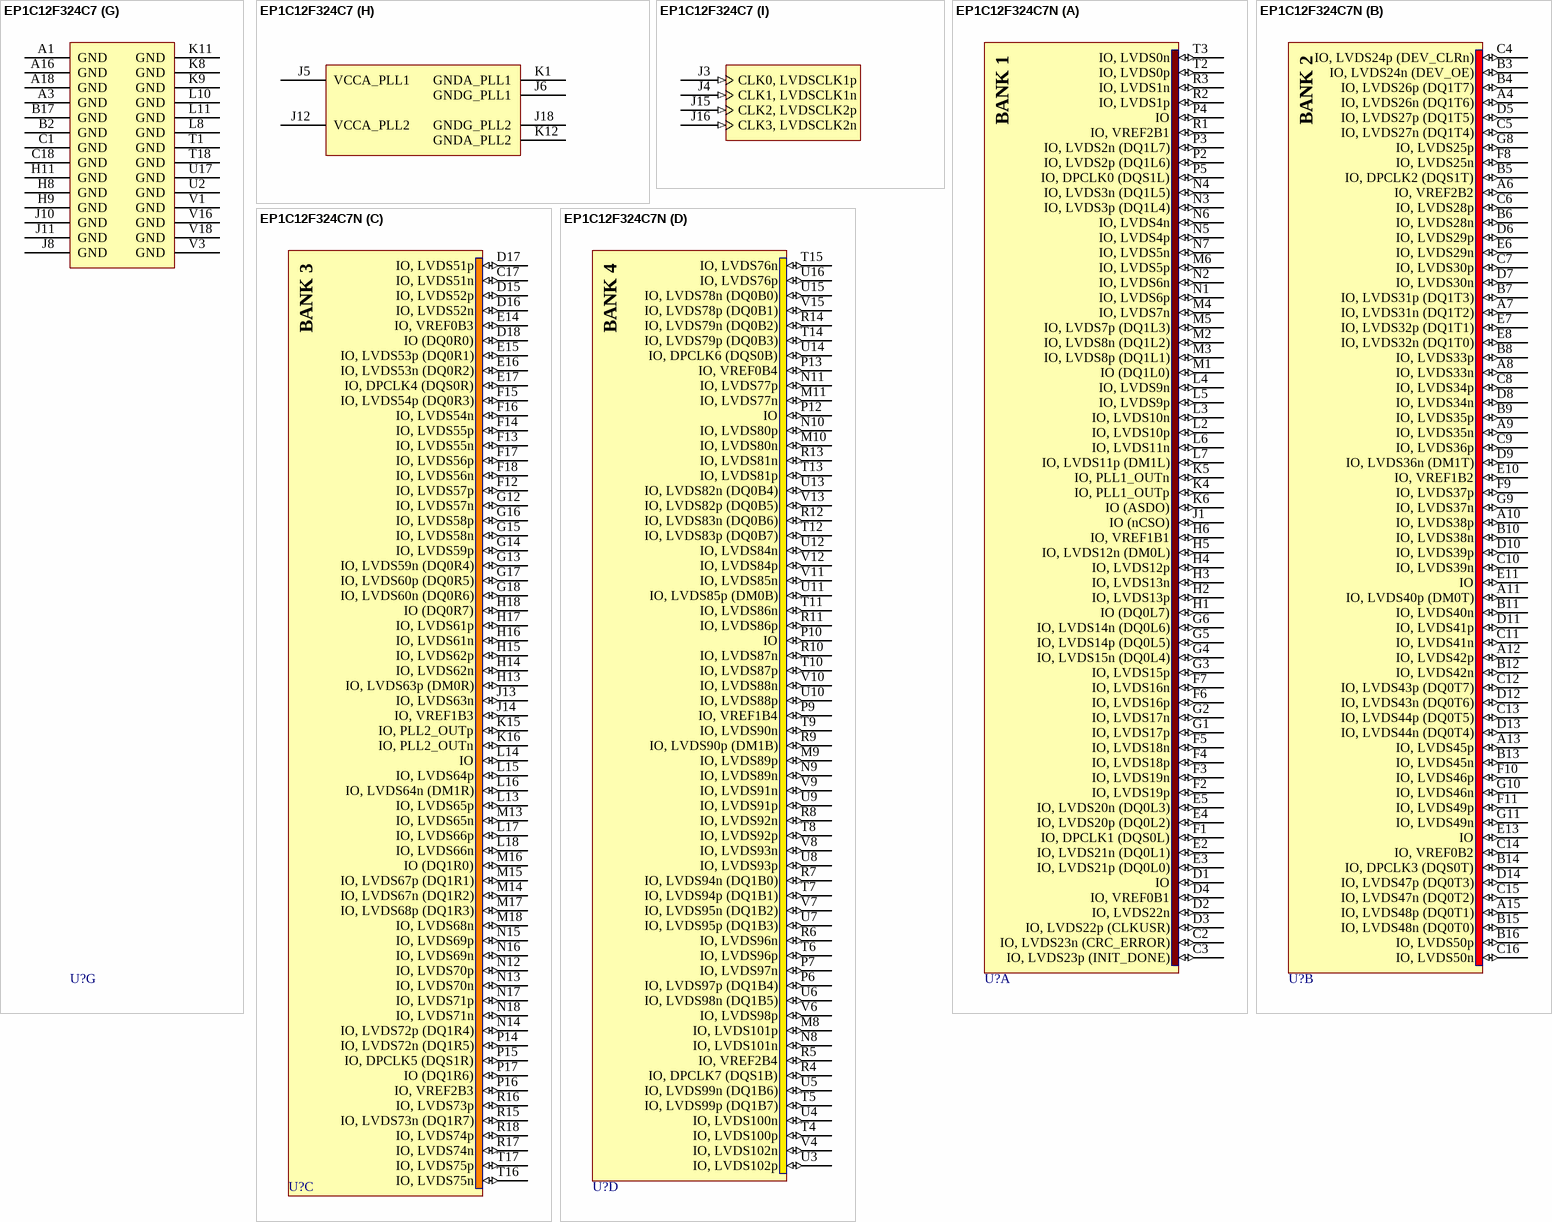
[diagram p96: symbols EP1C12F324C7 to EP1C12F324C7N]